# Altium schematic symbol library fpga_xilinx_ultrascale.SchLib: 7 symbols (part 4 of 6)
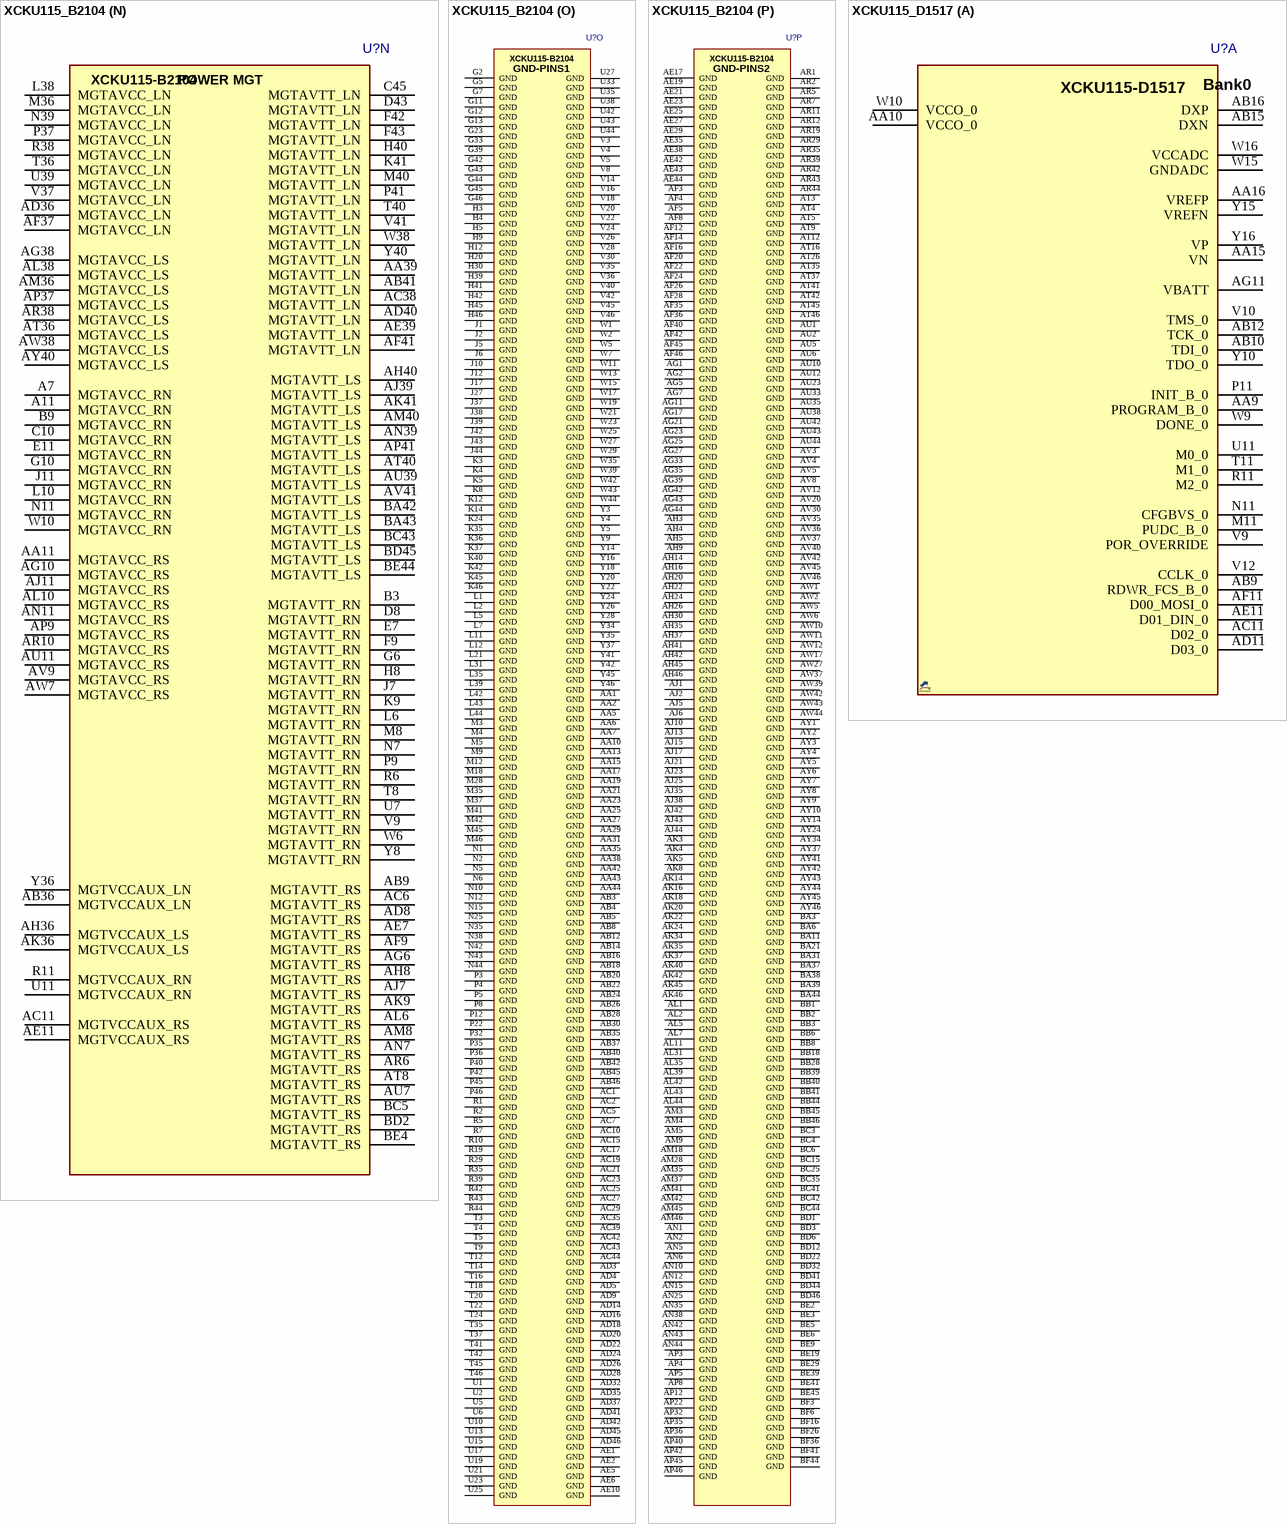
[diagram p32: symbols XCKU115_B2104 to XCKU115_D1517]

## XCKU115_B2104
designator U?  (value not drawn)
Xilinx FPGA Ultrascale, Kintex KU115, BGA2104; MANF_P#: XCKU115-2FLVB2104I; ASSEMBLY: ASSEMBLY; MANF: XILINX; VALUE: XCKU115_B2104; PACKAGE: FLVB2104
footprint BGA100_2104_S52 (Footprint not found)
part A pins: AA12 PUDC_B_0, AC12 DONE_0, AC13 TDO_0, AD12 POR_OVERRIDE, AD13 VCCO_0, AE12 PROGRAM_B_0, AE13 TCK_0, AE15 TDI_0, AF13 VCCO_0, AF18 GNDADC, AF19 VCCADC, AG12 RDWR_FCS_B_0, AG13 CCLK_0, AG15 TMS_0, AG18 VREFN, AG19 VP, AH12 D03_0, AH18 VN, AH19 VREFP, AJ12 D01_DIN_0, AJ18 DXN, AJ19 DXP, AK12 D00_MOSI_0, AL12 D02_0, AM12 VBATT, R12 M2_0, U12 M1_0, V12 M0_0, W12 CFGBVS_0, Y12 INIT_B_0
part B pins: AK30 VREF_44, AK33 VREF_45, AL29 IO_L24P_T3U_N10_44, AL30 IO_L24N_T3U_N11_44, AL32 IO_L23P_T3U_N8_45, AL33 IO_T3U_N12_45, AL34 IO_L24P_T3U_N10_45, AM29 IO_L22P_T3U_N6_DBC_AD0P_44, AM30 IO_L22N_T3U_N7_DBC_AD0N_44, AM31 IO_L23P_T3U_N8_44, AM32 IO_L23N_T3U_N9_45, AM33 VCCO_45, AM34 IO_L24N_T3U_N11_45, AN29 IO_L21P_T3L_N4_AD8P_44, AN30 VCCO_44, AN31 IO_L23N_T3U_N9_44, AN32 IO_L22P_T3U_N6_DBC_AD0P_45, AN33 IO_L22N_T3U_N7_DBC_AD0N_45, AN34 IO_L21P_T3L_N4_AD8P_45, AP29 IO_L21N_T3L_N5_AD8N_44, AP30 IO_L20P_T3L_N2_AD1P_44, AP31 IO_L19P_T3L_N0_DBC_AD9P_44, AP33 IO_L20P_T3L_N2_AD1P_45, AP34 IO_L21N_T3L_N5_AD8N_45, AR30 IO_L20N_T3L_N3_AD1N_44, AR31 IO_L19N_T3L_N1_DBC_AD9N_44, AR32 IO_T3U_N12_44, AR33 IO_L20N_T3L_N3_AD1N_45, AR34 VCCO_45, AT29 IO_L18P_T2U_N10_AD2P_44, AT30 IO_L18N_T2U_N11_AD2N_44, AT31 VCCO_44, AT32 IO_T2U_N12_44, AT33 IO_L19P_T3L_N0_DBC_AD9P_45, AT34 IO_L19N_T3L_N1_DBC_AD9N_45, AU29 IO_L16P_T2U_N6_QBC_AD3P_44, AU30 IO_L17P_T2U_N8_AD10P_44, AU31 IO_L17N_T2U_N9_AD10N_44, AU32 IO_L15P_T2L_N4_AD11P_44, AU34 IO_T2U_N12_45, AV29 IO_L16N_T2U_N7_QBC_AD3N_44, AV31 IO_L14P_T2L_N2_GC_44, AV32 IO_L15N_T2L_N5_AD11N_44, AV33 IO_L18P_T2U_N10_AD2P_45, AV34 IO_L17P_T2U_N8_AD10P_45, AW29 IO_L13P_T2L_N0_GC_QBC_44, AW30 IO_L13N_T2L_N1_GC_QBC_44, AW31 IO_L14N_T2L_N3_GC_44, AW32 VCCO_44, AW33 IO_L18N_T2U_N11_AD2N_45, AW34 IO_L17N_T2U_N9_AD10N_45, AW35 IO_L16P_T2U_N6_QBC_AD3P_45, AW36 IO_L16N_T2U_N7_QBC_AD3N_45, AY29 VCCO_44, AY30 IO_L11P_T1U_N8_GC_44, AY31 IO_L12P_T1U_N10_GC_44, AY32 IO_L12N_T1U_N11_GC_44, AY33 IO_L15P_T2L_N4_AD11P_45, AY35 IO_L14P_T2L_N2_GC_45, AY36 IO_L14N_T2L_N3_GC_45, BA29 IO_L9P_T1L_N4_AD12P_44, BA30 IO_L11N_T1U_N9_GC_44, BA32 IO_L10P_T1U_N6_QBC_AD4P_44, BA33 IO_L15N_T2L_N5_AD11N_45, BA34 IO_L13P_T2L_N0_GC_QBC_45, BA35 IO_L12P_T1U_N10_GC_45, BA36 VCCO_45, BB29 IO_L9N_T1L_N5_AD12N_44, BB30 IO_L8P_T1L_N2_AD5P_44, BB31 IO_L8N_T1L_N3_AD5N_44, BB32 IO_L10N_T1U_N7_QBC_AD4N_44, BB33 VCCO_45, BB34 IO_L13N_T2L_N1_GC_QBC_45, BB35 IO_L12N_T1U_N11_GC_45, BB36 IO_L11P_T1U_N8_GC_45, BB37 IO_L10P_T1U_N6_QBC_AD4P_45, BB38 IO_L6P_T0U_N10_AD6P_45, BC29 IO_L6P_T0U_N10_AD6P_44, BC30 VCCO_44, BC31 IO_L7P_T1L_N0_QBC_AD13P_44, BC32 IO_L7N_T1L_N1_QBC_AD13N_44, BC33 IO_T1U_N12_44, BC34 IO_L7P_T1L_N0_QBC_AD13P_45, BC36 IO_L11N_T1U_N9_GC_45, BC37 IO_L10N_T1U_N7_QBC_AD4N_45, BC38 IO_L6N_T0U_N11_AD6N_45, BC39 IO_L5P_T0U_N8_AD14P_45, BC40 VCCO_45, BD29 IO_L6N_T0U_N11_AD6N_44, BD30 IO_L4P_T0U_N6_DBC_AD7P_44, BD31 IO_L4N_T0U_N7_DBC_AD7N_44, BD33 IO_L5P_T0U_N8_AD14P_44, BD34 IO_L7N_T1L_N1_QBC_AD13N_45, BD35 IO_L8P_T1L_N2_AD5P_45, BD36 IO_L9P_T1L_N4_AD12P_45, BD37 VCCO_45, BD38 IO_T0U_N12_VRP_45, BD39 IO_L5N_T0U_N9_AD14N_45, BD40 IO_L4P_T0U_N6_DBC_AD7P_45, BE30 IO_L3P_T0L_N4_AD15P_44, BE31 IO_L2P_T0L_N2_44, BE32 IO_L2N_T0L_N3_44, BE33 IO_L5N_T0U_N9_AD14N_44, BE34 VCCO_45, BE35 IO_L8N_T1L_N3_AD5N_45, BE36 IO_L9N_T1L_N5_AD12N_45, BE37 IO_L3P_T0L_N4_AD15P_45, BE38 IO_L2P_T0L_N2_45, BE40 IO_L4N_T0U_N7_DBC_AD7N_45, BF30 IO_L3N_T0L_N5_AD15N_44, BF31 VCCO_44, BF32 IO_L1P_T0L_N0_DBC_44, BF33 IO_L1N_T0L_N1_DBC_44, BF34 IO_T0U_N12_VRP_44, BF35 IO_T1U_N12_45, BF37 IO_L3N_T0L_N5_AD15N_45, BF38 IO_L2N_T0L_N3_45, BF39 IO_L1P_T0L_N0_DBC_45, BF40 IO_L1N_T0L_N1_DBC_45
part C pins: AA32 IO_L19P_T3L_N0_DBC_AD9P_46, AA33 IO_L19N_T3L_N1_DBC_AD9N_46, AA34 IO_L20P_T3L_N2_AD1P_46, AB31 VREF_46, AB32 IO_T3U_N12_46, AB33 VCCO_46, AB34 IO_L20N_T3L_N3_AD1N_46, AC31 IO_L16P_T2U_N6_QBC_AD3P_46, AC32 IO_L17P_T2U_N8_AD10P_46, AC33 IO_L17N_T2U_N9_AD10N_46, AC34 IO_L18P_T2U_N10_AD2P_46, AD30 IO_T2U_N12_46, AD31 IO_L16N_T2U_N7_QBC_AD3N_46, AD33 IO_L14P_T2L_N2_GC_46, AD34 IO_L18N_T2U_N11_AD2N_46, AE30 IO_L15P_T2L_N4_AD11P_46, AE31 IO_L13P_T2L_N0_GC_QBC_46, AE32 IO_L13N_T2L_N1_GC_QBC_46, AE33 IO_L14N_T2L_N3_GC_46, AE34 VCCO_46, AF30 IO_L15N_T2L_N5_AD11N_46, AF31 VCCO_46, AF32 IO_L12P_T1U_N10_GC_46, AF33 IO_L12N_T1U_N11_GC_46, AF34 IO_L9P_T1L_N4_AD12P_46, AG29 IO_L5P_T0U_N8_AD14P_46, AG30 IO_L5N_T0U_N9_AD14N_46, AG31 IO_L11P_T1U_N8_GC_46, AG32 IO_L11N_T1U_N9_GC_46, AG34 IO_L9N_T1L_N5_AD12N_46, AH28 IO_L4P_T0U_N6_DBC_AD7P_46, AH29 IO_L4N_T0U_N7_DBC_AD7N_46, AH31 IO_L10P_T1U_N6_QBC_AD4P_46, AH32 IO_L10N_T1U_N7_QBC_AD4N_46, AH33 IO_L8P_T1L_N2_AD5P_46, AH34 IO_L7P_T1L_N0_QBC_AD13P_46, AJ27 IO_L1P_T0L_N0_DBC_46, AJ28 IO_L2P_T0L_N2_46, AJ29 IO_L3P_T0L_N4_AD15P_46, AJ30 IO_L3N_T0L_N5_AD15N_46, AJ31 IO_L6P_T0U_N10_AD6P_46, AJ32 VCCO_46, AJ33 IO_L8N_T1L_N3_AD5N_46, AJ34 IO_L7N_T1L_N1_QBC_AD13N_46, AK26 IO_T0U_N12_VRP_46, AK27 IO_L1N_T0L_N1_DBC_46, AK28 IO_L2N_T0L_N3_46, AK29 VCCO_46, AK31 IO_L6N_T0U_N11_AD6N_46, AK32 IO_T1U_N12_46, AL16 VCCO_66, AL17 IO_L22P_T3U_N6_DBC_AD0P_66, AL18 VREF_66, AL19 IO_L23P_T3U_N8_66, AL20 IO_L24P_T3U_N10_66, AM16 IO_L21P_T3L_N4_AD8P_66, AM17 IO_L22N_T3U_N7_DBC_AD0N_66, AM19 IO_L23N_T3U_N9_66, AM20 IO_L24N_T3U_N11_66, AN16 IO_L21N_T3L_N5_AD8N_66, AN17 IO_L19N_T3L_N1_DBC_AD9N_66, AN18 IO_L19P_T3L_N0_DBC_AD9P_66, AN19 IO_L20P_T3L_N2_AD1P_66, AN20 VCCO_66, AP16 IO_T3U_N12_66, AP17 VCCO_66, AP18 IO_L17P_T2U_N8_AD10P_66, AP19 IO_L20N_T3L_N3_AD1N_66, AP20 IO_L18P_T2U_N10_AD2P_66, AR17 IO_L16P_T2U_N6_QBC_AD3P_66, AR18 IO_L17N_T2U_N9_AD10N_66, AR20 IO_L18N_T2U_N11_AD2N_66, AT17 IO_L16N_T2U_N7_QBC_AD3N_66, AT18 IO_L15P_T2L_N4_AD11P_66, AT19 IO_L13P_T2L_N0_GC_QBC_66, AT20 IO_L14P_T2L_N2_GC_66, AU17 IO_L15N_T2L_N5_AD11N_66, AU18 VCCO_66, AU19 IO_L13N_T2L_N1_GC_QBC_66, AU20 IO_L14N_T2L_N3_GC_66, AU21 IO_T2U_N12_66, AV17 IO_T1U_N12_66, AV18 IO_L11P_T1U_N8_GC_66, AV19 IO_L12P_T1U_N10_GC_66, AV21 IO_L10P_T1U_N6_QBC_AD4P_66, AW18 IO_L11N_T1U_N9_GC_66, AW19 IO_L12N_T1U_N11_GC_66, AW20 IO_L9P_T1L_N4_AD12P_66, AW21 IO_L10N_T1U_N7_QBC_AD4N_66, AY17 IO_L7P_T1L_N0_QBC_AD13P_66, AY18 IO_L8P_T1L_N2_AD5P_66, AY19 VCCO_66, AY20 IO_L9N_T1L_N5_AD12N_66, BA17 IO_L7N_T1L_N1_QBC_AD13N_66, BA18 IO_L8N_T1L_N3_AD5N_66, BA19 IO_T0U_N12_VRP_66, BB17 IO_L5P_T0U_N8_AD14P_66, BB19 IO_L6P_T0U_N10_AD6P_66, BC17 IO_L5N_T0U_N9_AD14N_66, BC18 IO_L6N_T0U_N11_AD6N_66, BC19 IO_L4P_T0U_N6_DBC_AD7P_66, BD17 VCCO_66, BD18 IO_L3P_T0L_N4_AD15P_66, BD19 IO_L4N_T0U_N7_DBC_AD7N_66, BE17 IO_L1P_T0L_N0_DBC_66, BE18 IO_L3N_T0L_N5_AD15N_66, BF17 IO_L1N_T0L_N1_DBC_66, BF18 IO_L2N_T0L_N3_66, BF19 IO_L2P_T0L_N2_66, W30 IO_L21P_T3L_N4_AD8P_46, W31 IO_L22P_T3U_N6_DBC_AD0P_46, W32 VCCO_46, W33 IO_L24P_T3U_N10_46, W34 IO_L24N_T3U_N11_46, Y30 IO_L21N_T3L_N5_AD8N_46, Y31 IO_L22N_T3U_N7_DBC_AD0N_46, Y32 IO_L23P_T3U_N8_46, Y33 IO_L23N_T3U_N9_46
part D pins: AL13 VREF_67, AL14 IO_L24P_T3U_N10_67, AL15 IO_L23P_T3U_N8_67, AM13 VCCO_67, AM14 IO_L24N_T3U_N11_67, AM15 IO_L23N_T3U_N9_67, AN13 IO_L21N_T3L_N5_AD8N_67, AN14 IO_L21P_T3L_N4_AD8P_67, AP13 IO_L22P_T3U_N6_DBC_AD0P_67, AP14 IO_L20N_T3L_N3_AD1N_67, AP15 IO_L20P_T3L_N2_AD1P_67, AR13 IO_L22N_T3U_N7_DBC_AD0N_67, AR14 VCCO_67, AR15 IO_L19N_T3L_N1_DBC_AD9N_67, AR16 IO_L19P_T3L_N0_DBC_AD9P_67, AT13 IO_T3U_N12_67, AT14 IO_T2U_N12_67, AT15 IO_L17P_T2U_N8_AD10P_67, AU13 IO_L15P_T2L_N4_AD11P_67, AU14 IO_L16P_T2U_N6_QBC_AD3P_67, AU15 IO_L17N_T2U_N9_AD10N_67, AU16 IO_L18P_T2U_N10_AD2P_67, AV13 IO_L15N_T2L_N5_AD11N_67, AV14 IO_L16N_T2U_N7_QBC_AD3N_67, AV15 VCCO_67, AV16 IO_L18N_T2U_N11_AD2N_67, AW13 IO_L13N_T2L_N1_GC_QBC_67, AW14 IO_L13P_T2L_N0_GC_QBC_67, AW15 IO_L14N_T2L_N3_GC_67, AW16 IO_L14P_T2L_N2_GC_67, AY11 IO_L8N_T1L_N3_AD5N_67, AY12 IO_L8P_T1L_N2_AD5P_67, AY13 IO_L12P_T1U_N10_GC_67, AY15 IO_L9N_T1L_N5_AD12N_67, AY16 IO_L9P_T1L_N4_AD12P_67, BA7 IO_L10P_T1U_N6_QBC_AD4P_68, BA8 IO_L12N_T1U_N11_GC_68, BA9 IO_L12P_T1U_N10_GC_68, BA10 VREF_68, BA12 IO_L7P_T1L_N0_QBC_AD13P_67, BA13 IO_L12N_T1U_N11_GC_67, BA14 IO_L11N_T1U_N9_GC_67, BA15 IO_L11P_T1U_N8_GC_67, BA16 VCCO_67, BB7 IO_L10N_T1U_N7_QBC_AD4N_68, BB9 IO_L11P_T1U_N8_GC_68, BB10 IO_L8N_T1L_N3_AD5N_68, BB11 IO_L8P_T1L_N2_AD5P_68, BB12 IO_L7N_T1L_N1_QBC_AD13N_67, BB13 VCCO_67, BB14 IO_L10N_T1U_N7_QBC_AD4N_67, BB15 IO_L10P_T1U_N6_QBC_AD4P_67, BB16 IO_T1U_N12_67, BC7 IO_L9N_T1L_N5_AD12N_68, BC8 IO_L9P_T1L_N4_AD12P_68, BC9 IO_L11N_T1U_N9_GC_68, BC10 VCCO_68, BC11 IO_L7N_T1L_N1_QBC_AD13N_68, BC12 IO_L7P_T1L_N0_QBC_AD13P_68, BC13 IO_L6N_T0U_N11_AD6N_67, BC14 IO_L6P_T0U_N10_AD6P_67, BC16 IO_T0U_N12_VRP_67, BD7 VCCO_68, BD8 IO_L6N_T0U_N11_AD6N_68, BD9 IO_L6P_T0U_N10_AD6P_68, BD10 IO_T0U_N12_VRP_68, BD11 IO_T1U_N12_68, BD13 IO_L4P_T0U_N6_DBC_AD7P_67, BD14 IO_L5N_T0U_N9_AD14N_67, BD15 IO_L5P_T0U_N8_AD14P_67, BD16 IO_L3P_T0L_N4_AD15P_67, BE7 IO_L1P_T0L_N0_DBC_68, BE8 IO_L2P_T0L_N2_68, BE10 IO_L4N_T0U_N7_DBC_AD7N_68, BE11 IO_L4P_T0U_N6_DBC_AD7P_68, BE12 IO_L5P_T0U_N8_AD14P_68, BE13 IO_L4N_T0U_N7_DBC_AD7N_67, BE14 VCCO_67, BE15 IO_L2P_T0L_N2_67, BE16 IO_L3N_T0L_N5_AD15N_67, BF7 IO_L1N_T0L_N1_DBC_68, BF8 IO_L2N_T0L_N3_68, BF9 IO_L3N_T0L_N5_AD15N_68, BF10 IO_L3P_T0L_N4_AD15P_68, BF11 VCCO_68, BF12 IO_L5N_T0U_N9_AD14N_68, BF13 IO_L1N_T0L_N1_DBC_67, BF14 IO_L1P_T0L_N0_DBC_67, BF15 IO_L2N_T0L_N3_67
part E pins: A32 IO_L22P_T3U_N6_DBC_AD0P_52, A33 IO_L22N_T3U_N7_DBC_AD0N_52, A34 IO_L19N_T3L_N1_DBC_AD9N_52, A35 IO_L17N_T2U_N9_AD10N_52, A36 VCCO_52, A37 IO_L15P_T2L_N4_AD11P_52, A38 IO_L15N_T2L_N5_AD11N_52, A39 IO_L10N_T1U_N7_QBC_AD4N_52, A40 IO_L9N_T1L_N5_AD12N_52, B31 IO_T3U_N12_52, B32 IO_L23N_T3U_N9_52, B33 VCCO_52, B34 IO_L19P_T3L_N0_DBC_AD9P_52, B35 IO_L17P_T2U_N8_AD10P_52, B36 IO_L16P_T2U_N6_QBC_AD3P_52, B37 IO_L16N_T2U_N7_QBC_AD3N_52, B39 IO_L10P_T1U_N6_QBC_AD4P_52, B40 IO_L9P_T1L_N4_AD12P_52, C31 IO_L24N_T3U_N11_52, C32 IO_L23P_T3U_N8_52, C33 IO_L21N_T3L_N5_AD8N_52, C34 IO_L20N_T3L_N3_AD1N_52, C36 IO_L13P_T2L_N0_GC_QBC_52, C37 IO_L13N_T2L_N1_GC_QBC_52, C38 IO_L12P_T1U_N10_GC_52, C39 IO_L12N_T1U_N11_GC_52, C40 VCCO_52, D31 IO_L24P_T3U_N10_52, D33 IO_L21P_T3L_N4_AD8P_52, D34 IO_L20P_T3L_N2_AD1P_52, D35 IO_L18N_T2U_N11_AD2N_52, D36 IO_L14N_T2L_N3_GC_52, D37 VCCO_52, D38 IO_L11N_T1U_N9_GC_52, D39 IO_L8N_T1L_N3_AD5N_52, D40 IO_L7N_T1L_N1_QBC_AD13N_52, E31 IO_T3U_N12_51, E32 IO_L23N_T3U_N9_51, E33 IO_L24N_T3U_N11_51, E34 VCCO_52, E35 IO_L18P_T2U_N10_AD2P_52, E36 IO_L14P_T2L_N2_GC_52, E37 IO_T2U_N12_52, E38 IO_L11P_T1U_N8_GC_52, E39 IO_L8P_T1L_N2_AD5P_52, E40 IO_L7P_T1L_N0_QBC_AD13P_52, F30 IO_L19N_T3L_N1_DBC_AD9N_51, F31 VCCO_51, F32 IO_L23P_T3U_N8_51, F33 IO_L24P_T3U_N10_51, F34 IO_L6P_T0U_N10_AD6P_52, F35 IO_L6N_T0U_N11_AD6N_52, F37 IO_L2N_T0L_N3_52, F38 IO_T1U_N12_52, G30 IO_L19P_T3L_N0_DBC_AD9P_51, G31 IO_L20N_T3L_N3_AD1N_51, G32 IO_L21N_T3L_N5_AD8N_51, G34 IO_L5N_T0U_N9_AD14N_52, G35 IO_T0U_N12_VRP_52, G36 IO_L4N_T0U_N7_DBC_AD7N_52, G37 IO_L2P_T0L_N2_52, G38 VCCO_52, H31 IO_L20P_T3L_N2_AD1P_51, H32 IO_L21P_T3L_N4_AD8P_51, H33 IO_L22N_T3U_N7_DBC_AD0N_51, H34 IO_L5P_T0U_N8_AD14P_52, H35 VCCO_52, H36 IO_L4P_T0U_N6_DBC_AD7P_52, H37 IO_L1P_T0L_N0_DBC_52, H38 IO_L1N_T0L_N1_DBC_52, J30 IO_L16N_T2U_N7_QBC_AD3N_51, J31 IO_L17N_T2U_N9_AD10N_51, J32 VCCO_51, J33 IO_L22P_T3U_N6_DBC_AD0P_51, J34 VREF_52, J35 IO_L3P_T0L_N4_AD15P_52, J36 IO_L3N_T0L_N5_AD15N_52, K30 IO_L16P_T2U_N6_QBC_AD3P_51, K31 IO_L17P_T2U_N8_AD10P_51, K32 IO_L14N_T2L_N3_GC_51, K33 IO_L18N_T2U_N11_AD2N_51, K34 IO_T2U_N12_51, L30 IO_L15N_T2L_N5_AD11N_51, L32 IO_L14P_T2L_N2_GC_51, L33 IO_L18P_T2U_N10_AD2P_51, L34 IO_L10N_T1U_N7_QBC_AD4N_51, M30 IO_L15P_T2L_N4_AD11P_51, M31 IO_L13P_T2L_N0_GC_QBC_51, M32 IO_L13N_T2L_N1_GC_QBC_51, M33 VCCO_51, M34 IO_L10P_T1U_N6_QBC_AD4P_51, N30 VCCO_51, N31 IO_L11N_T1U_N9_GC_51, N32 IO_L12P_T1U_N10_GC_51, N33 IO_L12N_T1U_N11_GC_51, N34 IO_L9N_T1L_N5_AD12N_51, P30 IO_L7N_T1L_N1_QBC_AD13N_51, P31 IO_L11P_T1U_N8_GC_51, P33 IO_T1U_N12_51, P34 IO_L9P_T1L_N4_AD12P_51, R30 IO_L7P_T1L_N0_QBC_AD13P_51, R31 IO_L8P_T1L_N2_AD5P_51, R32 IO_L8N_T1L_N3_AD5N_51, R33 IO_L2N_T0L_N3_51, R34 VCCO_51, T30 IO_L6N_T0U_N11_AD6N_51, T31 VCCO_51, T32 IO_L3N_T0L_N5_AD15N_51, T33 IO_L2P_T0L_N2_51, T34 IO_L1N_T0L_N1_DBC_51, U29 VREF_51, U30 IO_L6P_T0U_N10_AD6P_51, U31 IO_L5N_T0U_N9_AD14N_51, U32 IO_L3P_T0L_N4_AD15P_51, U34 IO_L1P_T0L_N0_DBC_51, V31 IO_L5P_T0U_N8_AD14P_51, V32 IO_L4P_T0U_N6_DBC_AD7P_51, V33 IO_L4N_T0U_N7_DBC_AD7N_51, V34 IO_T0U_N12_VRP_51
part F pins: A13 IO_L21N_T3L_N5_AD8N_71, A14 IO_L21P_T3L_N4_AD8P_71, A15 IO_L22N_T3U_N7_DBC_AD0N_71, A16 VCCO_71, A17 IO_L24N_T3U_N11_71, A27 IO_L22P_T3U_N6_DBC_AD0P_53, A28 IO_L22N_T3U_N7_DBC_AD0N_53, A29 IO_L23N_T3U_N9_53, A30 IO_L24N_T3U_N11_53, B13 VCCO_71, B14 IO_L20N_T3L_N3_AD1N_71, B15 IO_L22P_T3U_N6_DBC_AD0P_71, B16 IO_L23N_T3U_N9_71, B17 IO_L24P_T3U_N10_71, B27 IO_L19N_T3L_N1_DBC_AD9N_53, B29 IO_L23P_T3U_N8_53, B30 IO_L24P_T3U_N10_53, C13 IO_L19N_T3L_N1_DBC_AD9N_71, C14 IO_L20P_T3L_N2_AD1P_71, C16 IO_L23P_T3U_N8_71, C17 IO_T3U_N12_71, C27 IO_L19P_T3L_N0_DBC_AD9P_53, C28 IO_T3U_N12_53, C29 IO_L20N_T3L_N3_AD1N_53, C30 VCCO_53, D13 IO_L19P_T3L_N0_DBC_AD9P_71, D14 IO_T2U_N12_71, D15 IO_L17N_T2U_N9_AD10N_71, D16 IO_L18N_T2U_N11_AD2N_71, D27 VCCO_53, D28 IO_L18N_T2U_N11_AD2N_53, D29 IO_L20P_T3L_N2_AD1P_53, D30 IO_L21N_T3L_N5_AD8N_53, E13 IO_L15N_T2L_N5_AD11N_71, E14 VCCO_71, E15 IO_L17P_T2U_N8_AD10P_71, E16 IO_L18P_T2U_N10_AD2P_71, E26 IO_T2U_N12_53, E27 IO_L17N_T2U_N9_AD10N_53, E28 IO_L18P_T2U_N10_AD2P_53, E30 IO_L21P_T3L_N4_AD8P_53, F13 IO_L15P_T2L_N4_AD11P_71, F14 IO_L13N_T2L_N1_GC_QBC_71, F15 IO_L14N_T2L_N3_GC_71, F27 IO_L17P_T2U_N8_AD10P_53, F28 IO_L16P_T2U_N6_QBC_AD3P_53, F29 IO_L16N_T2U_N7_QBC_AD3N_53, G14 IO_L13P_T2L_N0_GC_QBC_71, G15 IO_L14P_T2L_N2_GC_71, G16 IO_L16N_T2U_N7_QBC_AD3N_71, G17 IO_L16P_T2U_N6_QBC_AD3P_71, G26 IO_L14P_T2L_N2_GC_53, G27 IO_L14N_T2L_N3_GC_53, G28 VCCO_53, G29 IO_L15N_T2L_N5_AD11N_53, H13 IO_L9N_T1L_N5_AD12N_71, H14 IO_L11N_T1U_N9_GC_71, H15 VCCO_71, H16 IO_L10N_T1U_N7_QBC_AD4N_71, H17 IO_L10P_T1U_N6_QBC_AD4P_71, H26 IO_L13N_T2L_N1_GC_QBC_53, H27 IO_L11P_T1U_N8_GC_53, H28 IO_L11N_T1U_N9_GC_53, H29 IO_L15P_T2L_N4_AD11P_53, J13 IO_L9P_T1L_N4_AD12P_71, J14 IO_L11P_T1U_N8_GC_71, J15 IO_L12N_T1U_N11_GC_71, J16 IO_L12P_T1U_N10_GC_71, J26 IO_L13P_T2L_N0_GC_QBC_53, J28 IO_L12P_T1U_N10_GC_53, J29 IO_L12N_T1U_N11_GC_53, K13 IO_L7N_T1L_N1_QBC_AD13N_71, K15 IO_L8N_T1L_N3_AD5N_71, K16 IO_L8P_T1L_N2_AD5P_71, K26 IO_L10P_T1U_N6_QBC_AD4P_53, K27 IO_L10N_T1U_N7_QBC_AD4N_53, K28 IO_L8N_T1L_N3_AD5N_53, K29 VCCO_53, L13 IO_L7P_T1L_N0_QBC_AD13P_71, L14 IO_L5N_T0U_N9_AD14N_71, L15 IO_T1U_N12_71, L16 VCCO_71, L26 VCCO_53, L27 IO_L9N_T1L_N5_AD12N_53, L28 IO_L8P_T1L_N2_AD5P_53, L29 IO_L7N_T1L_N1_QBC_AD13N_53, M13 VCCO_71, M14 IO_L5P_T0U_N8_AD14P_71, M15 IO_T0U_N12_VRP_71, M16 IO_L6N_T0U_N11_AD6N_71, M26 IO_T1U_N12_53, M27 IO_L9P_T1L_N4_AD12P_53, M29 IO_L7P_T1L_N0_QBC_AD13P_53, N13 IO_L1N_T0L_N1_DBC_71, N14 IO_L2N_T0L_N3_71, N16 IO_L6P_T0U_N10_AD6P_71, N26 IO_L6N_T0U_N11_AD6N_53, N27 IO_T0U_N12_VRP_53, N28 IO_L5N_T0U_N9_AD14N_53, N29 IO_L4N_T0U_N7_DBC_AD7N_53, P13 IO_L1P_T0L_N0_DBC_71, P14 IO_L2P_T0L_N2_71, P15 IO_L3N_T0L_N5_AD15N_71, P16 IO_L4N_T0U_N7_DBC_AD7N_71, P26 IO_L6P_T0U_N10_AD6P_53, P27 VCCO_53, P28 IO_L5P_T0U_N8_AD14P_53, P29 IO_L4P_T0U_N6_DBC_AD7P_53, R13 VREF_71, R14 VCCO_71, R15 IO_L3P_T0L_N4_AD15P_71, R16 IO_L4P_T0U_N6_DBC_AD7P_71, R26 IO_L3N_T0L_N5_AD15N_53, R27 IO_L2N_T0L_N3_53, R28 IO_L1N_T0L_N1_DBC_53, T26 IO_L3P_T0L_N4_AD15P_53, T27 IO_L2P_T0L_N2_53, T28 IO_L1P_T0L_N0_DBC_53, T29 VREF_53
part G pins: A18 IO_T3U_N12_72, A19 IO_L23N_T3U_N9_72, A20 IO_L24N_T3U_N11_72, A22 IO_L22N_T3U_N7_DBC_AD0N_73, A23 IO_L22P_T3U_N6_DBC_AD0P_73, A24 IO_L23N_T3U_N9_73, A25 IO_L24N_T3U_N11_73, A26 VCCO_73, B19 IO_L23P_T3U_N8_72, B20 IO_L24P_T3U_N10_72, B21 IO_L21N_T3L_N5_AD8N_72, B22 IO_L19N_T3L_N1_DBC_AD9N_73, B23 VCCO_73, B24 IO_L23P_T3U_N8_73, B25 IO_L24P_T3U_N10_73, B26 IO_L21N_T3L_N5_AD8N_73, C18 IO_L22N_T3U_N7_DBC_AD0N_72, C19 IO_L19N_T3L_N1_DBC_AD9N_72, C20 VCCO_72, C21 IO_L21P_T3L_N4_AD8P_72, C22 IO_L19P_T3L_N0_DBC_AD9P_73, C23 IO_L20N_T3L_N3_AD1N_73, C24 IO_L20P_T3L_N2_AD1P_73, C26 IO_L21P_T3L_N4_AD8P_73, D17 VCCO_72, D18 IO_L22P_T3U_N6_DBC_AD0P_72, D19 IO_L19P_T3L_N0_DBC_AD9P_72, D20 IO_L20N_T3L_N3_AD1N_72, D21 IO_L20P_T3L_N2_AD1P_72, D23 IO_L17N_T2U_N9_AD10N_73, D24 IO_L17P_T2U_N8_AD10P_73, D25 IO_L18N_T2U_N11_AD2N_73, D26 IO_T3U_N12_73, E17 IO_L16N_T2U_N7_QBC_AD3N_72, E18 IO_L16P_T2U_N6_QBC_AD3P_72, E20 IO_L17N_T2U_N9_AD10N_72, E21 IO_L17P_T2U_N8_AD10P_72, E22 IO_L16N_T2U_N7_QBC_AD3N_73, E23 IO_L16P_T2U_N6_QBC_AD3P_73, E24 VCCO_73, E25 IO_L18P_T2U_N10_AD2P_73, F17 IO_L18N_T2U_N11_AD2N_72, F18 IO_L18P_T2U_N10_AD2P_72, F19 IO_L15N_T2L_N5_AD11N_72, F20 IO_L15P_T2L_N4_AD11P_72, F21 VCCO_72, F22 IO_L15N_T2L_N5_AD11N_73, F23 IO_L14N_T2L_N3_GC_73, F24 IO_L14P_T2L_N2_GC_73, F25 IO_T2U_N12_73, G18 VCCO_72, G19 IO_L14N_T2L_N3_GC_72, G20 IO_L14P_T2L_N2_GC_72, G21 IO_T2U_N12_72, G22 IO_L15P_T2L_N4_AD11P_73, G24 IO_L13N_T2L_N1_GC_QBC_73, G25 IO_L13P_T2L_N0_GC_QBC_73, H18 IO_L13N_T2L_N1_GC_QBC_72, H19 IO_L13P_T2L_N0_GC_QBC_72, H21 IO_L10N_T1U_N7_QBC_AD4N_72, H22 IO_T1U_N12_73, H23 IO_L11N_T1U_N9_GC_73, H24 IO_L12N_T1U_N11_GC_73, H25 VCCO_73, J18 IO_L11N_T1U_N9_GC_72, J19 IO_L12N_T1U_N11_GC_72, J20 IO_L12P_T1U_N10_GC_72, J21 IO_L10P_T1U_N6_QBC_AD4P_72, J22 VCCO_73, J23 IO_L11P_T1U_N8_GC_73, J24 IO_L12P_T1U_N10_GC_73, J25 IO_L10N_T1U_N7_QBC_AD4N_73, K17 IO_L7N_T1L_N1_QBC_AD13N_72, K18 IO_L11P_T1U_N8_GC_72, K19 VCCO_72, K20 IO_L9N_T1L_N5_AD12N_72, K21 IO_T1U_N12_72, K22 IO_L8N_T1L_N3_AD5N_73, K23 IO_L9N_T1L_N5_AD12N_73, K25 IO_L10P_T1U_N6_QBC_AD4P_73, L17 IO_L7P_T1L_N0_QBC_AD13P_72, L18 IO_L8N_T1L_N3_AD5N_72, L19 IO_L8P_T1L_N2_AD5P_72, L20 IO_L9P_T1L_N4_AD12P_72, L22 IO_L8P_T1L_N2_AD5P_73, L23 IO_L9P_T1L_N4_AD12P_73, L24 IO_L7N_T1L_N1_QBC_AD13N_73, L25 IO_L7P_T1L_N0_QBC_AD13P_73, M17 IO_L1N_T0L_N1_DBC_72, M19 IO_L3N_T0L_N5_AD15N_72, M20 IO_L3P_T0L_N4_AD15P_72, M21 IO_L6N_T0U_N11_AD6N_72, M22 IO_L2N_T0L_N3_73, M23 VCCO_73, M24 IO_L5N_T0U_N9_AD14N_73, M25 IO_L5P_T0U_N8_AD14P_73, N17 IO_L1P_T0L_N0_DBC_72, N18 IO_L2N_T0L_N3_72, N19 IO_L4N_T0U_N7_DBC_AD7N_72, N20 VCCO_72, N21 IO_L6P_T0U_N10_AD6P_72, N22 IO_L2P_T0L_N2_73, N23 IO_L3N_T0L_N5_AD15N_73, N24 IO_L4N_T0U_N7_DBC_AD7N_73, P17 VCCO_72, P18 IO_L2P_T0L_N2_72, P19 IO_L4P_T0U_N6_DBC_AD7P_72, P20 IO_L5N_T0U_N9_AD14N_72, P21 IO_L1N_T0L_N1_DBC_73, P23 IO_L3P_T0L_N4_AD15P_73, P24 IO_L4P_T0U_N6_DBC_AD7P_73, P25 IO_L6N_T0U_N11_AD6N_73, R17 VREF_72, R18 IO_T0U_N12_VRP_72, R20 IO_L5P_T0U_N8_AD14P_72, R21 IO_L1P_T0L_N0_DBC_73, R22 VREF_73, R23 IO_T0U_N12_VRP_73, R24 VCCO_73, R25 IO_L6P_T0U_N10_AD6P_73
part H pins: AK25 VREF_65, AL21 IO_L24P_T3U_N10_84, AL22 IO_L23P_T3U_N8_84, AL23 VREF_84, AL24 IO_L22P_T3U_N6_DBC_AD0P_84, AL25 IO_L21P_T3L_N4_AD8P_D06_65, AL26 VCCO_65, AL27 IO_L24P_T3U_N10_EMCCLK_65, AL28 IO_L24N_T3U_N11_DOUT_CSO_B_65, AM21 IO_L24N_T3U_N11_84, AM22 IO_L23N_T3U_N9_84, AM23 VCCO_84, AM24 IO_L22N_T3U_N7_DBC_AD0N_84, AM25 IO_L21N_T3L_N5_AD8N_D07_65, AM26 IO_L22P_T3U_N6_DBC_AD0P_D04_65, AM27 IO_L23P_T3U_N8_I2C_SCLK_65, AN21 IO_L19N_T3L_N1_DBC_AD9N_84, AN22 IO_L19P_T3L_N0_DBC_AD9P_84, AN23 IO_L20P_T3L_N2_AD1P_84, AN24 IO_L21P_T3L_N4_AD8P_84, AN26 IO_L22N_T3U_N7_DBC_AD0N_D05_65, AN27 IO_L23N_T3U_N9_I2C_SDA_65, AN28 IO_L20P_T3L_N2_AD1P_D08_65, AP21 IO_T3U_N12_84, AP23 IO_L20N_T3L_N3_AD1N_84, AP24 IO_L21N_T3L_N5_AD8N_84, AP25 IO_L19P_T3L_N0_DBC_AD9P_D10_65, AP26 IO_L19N_T3L_N1_DBC_AD9N_D11_65, AP27 VCCO_65, AP28 IO_L20N_T3L_N3_AD1N_D09_65, AR21 IO_T2U_N12_84, AR22 IO_L16P_T2U_N6_QBC_AD3P_84, AR23 IO_L17P_T2U_N8_AD10P_84, AR24 VCCO_84, AR25 IO_L16P_T2U_N6_QBC_AD3P_A00_D16_65, AR26 IO_T3U_N12_PERSTN0_65, AR27 IO_L17P_T2U_N8_AD10P_D14_65, AR28 IO_L18P_T2U_N10_AD2P_D12_65, AT21 VCCO_84, AT22 IO_L16N_T2U_N7_QBC_AD3N_84, AT23 IO_L17N_T2U_N9_AD10N_84, AT24 IO_L18P_T2U_N10_AD2P_84, AT25 IO_L16N_T2U_N7_QBC_AD3N_A01_D17_65, AT27 IO_L17N_T2U_N9_AD10N_D15_65, AT28 IO_L18N_T2U_N11_AD2N_D13_65, AU22 IO_L15P_T2L_N4_AD11P_84, AU24 IO_L18N_T2U_N11_AD2N_84, AU25 IO_T2U_N12_CSI_ADV_B_65, AU26 IO_L15P_T2L_N4_AD11P_A02_D18_65, AU27 IO_L15N_T2L_N5_AD11N_A03_D19_65, AU28 VCCO_65, AV22 IO_L15N_T2L_N5_AD11N_84, AV23 IO_L13P_T2L_N0_GC_QBC_84, AV24 IO_L14P_T2L_N2_GC_84, AV25 VCCO_65, AV26 IO_L13P_T2L_N0_GC_QBC_A06_D22_65, AV27 IO_L14P_T2L_N2_GC_A04_D20_65, AV28 IO_L14N_T2L_N3_GC_A05_D21_65, AW22 VCCO_84, AW23 IO_L13N_T2L_N1_GC_QBC_84, AW24 IO_L14N_T2L_N3_GC_84, AW25 IO_L10P_T1U_N6_QBC_AD4P_A12_D28_65, AW26 IO_L13N_T2L_N1_GC_QBC_A07_D23_65, AW28 IO_L12P_T1U_N10_GC_A08_D24_65, AY21 VREF_94, AY22 IO_L11P_T1U_N8_GC_94, AY23 IO_L12P_T1U_N10_GC_94, AY25 IO_L10N_T1U_N7_QBC_AD4N_A13_D29_65, AY26 IO_L11P_T1U_N8_GC_A10_D26_65, AY27 IO_L11N_T1U_N9_GC_A11_D27_65, AY28 IO_L12N_T1U_N11_GC_A09_D25_65, BA20 IO_L7P_T1L_N0_QBC_AD13P_94, BA22 IO_L11N_T1U_N9_GC_94, BA23 IO_L12N_T1U_N11_GC_94, BA24 IO_L10P_T1U_N6_QBC_AD4P_94, BA25 IO_L7P_T1L_N0_QBC_AD13P_A18_65, BA26 VCCO_65, BA27 IO_L9P_T1L_N4_AD12P_A14_D30_65, BA28 IO_L9N_T1L_N5_AD12N_A15_D31_65, BB20 IO_L7N_T1L_N1_QBC_AD13N_94, BB21 IO_L8P_T1L_N2_AD5P_94, BB22 IO_L9P_T1L_N4_AD12P_94, BB23 VCCO_94, BB24 IO_L10N_T1U_N7_QBC_AD4N_94, BB25 IO_L7N_T1L_N1_QBC_AD13N_A19_65, BB26 IO_L8P_T1L_N2_AD5P_A16_65, BB27 IO_L8N_T1L_N3_AD5N_A17_65, BC20 VCCO_94, BC21 IO_L8N_T1L_N3_AD5N_94, BC22 IO_L9N_T1L_N5_AD12N_94, BC23 IO_T1U_N12_94, BC24 IO_L3P_T0L_N4_AD15P_94, BC26 IO_L6P_T0U_N10_AD6P_A20_65, BC27 IO_L6N_T0U_N11_AD6N_A21_65, BC28 IO_T1U_N12_PERSTN1_65, BD20 IO_L6P_T0U_N10_AD6P_94, BD21 IO_L5P_T0U_N8_AD14P_94, BD23 IO_L2P_T0L_N2_94, BD24 IO_L3N_T0L_N5_AD15N_94, BD25 IO_T0U_N12_A28_65, BD26 IO_L4P_T0U_N6_DBC_AD7P_A24_65, BD27 VCCO_65, BD28 IO_L3P_T0L_N4_AD15P_A26_65, BE20 IO_L6N_T0U_N11_AD6N_94, BE21 IO_L5N_T0U_N9_AD14N_94, BE22 IO_L4P_T0U_N6_DBC_AD7P_94, BE23 IO_L2N_T0L_N3_94, BE24 VCCO_94, BE25 IO_L5P_T0U_N8_AD14P_A22_65, BE26 IO_L4N_T0U_N7_DBC_AD7N_A25_65, BE27 IO_L2P_T0L_N2_FOE_B_65, BE28 IO_L3N_T0L_N5_AD15N_A27_65, BF20 IO_T0U_N12_94, BF21 VCCO_94, BF22 IO_L4N_T0U_N7_DBC_AD7N_94, BF23 IO_L1N_T0L_N1_DBC_94, BF24 IO_L1P_T0L_N0_DBC_94, BF25 IO_L5N_T0U_N9_AD14N_A23_65, BF27 IO_L2N_T0L_N3_FWE_FCS2_B_65, BF28 IO_L1P_T0L_N0_DBC_RS0_65, BF29 IO_L1N_T0L_N1_DBC_RS1_65
part I pins: AF38 NC, AF39 NC, AF43 NC, AF44 NC, AG40 NC, AG41 NC, AG45 NC, AG46 NC, AH38 NC, AH39 NC, AH43 NC, AH44 NC, AJ36 NC, AJ37 NC, AJ40 NC, AJ41 NC, AJ45 NC, AJ46 NC, AK38 MGTHTXP3_128, AK39 MGTHTXN3_128, AK43 MGTHRXP3_128, AK44 MGTHRXN3_128, AL36 NC, AL37 NC, AL40 MGTHTXP2_128, AL41 MGTHTXN2_128, AL45 MGTHRXP2_128, AL46 MGTHRXN2_128, AM38 MGTHTXP1_128, AM39 MGTHTXN1_128, AM43 MGTHRXP1_128, AM44 MGTHRXN1_128, AN36 MGTREFCLK1P_128, AN37 MGTREFCLK1N_128, AN40 MGTHTXP0_128, AN41 MGTHTXN0_128, AN45 MGTHRXP0_128, AN46 MGTHRXN0_128, AP38 MGTHTXP3_127, AP39 MGTHTXN3_127, AP43 MGTHRXP3_127, AP44 MGTHRXN3_127, AR36 MGTREFCLK0P_128, AR37 MGTREFCLK0N_128, AR40 MGTHTXP2_127, AR41 MGTHTXN2_127, AR45 MGTHRXP2_127, AR46 MGTHRXN2_127, AT38 MGTHTXP1_127, AT39 MGTHTXN1_127, AT43 MGTHRXP1_127, AT44 MGTHRXN1_127, AU36 MGTREFCLK1P_127, AU37 MGTREFCLK1N_127, AU40 MGTHTXP0_127, AU41 MGTHTXN0_127, AU45 MGTHRXP0_127, AU46 MGTHRXN0_127, AV38 MGTREFCLK0P_127, AV39 MGTREFCLK0N_127, AV43 MGTHRXP3_126, AV44 MGTHRXN3_126, AW40 MGTHTXP3_126, AW41 MGTHTXN3_126, AW45 MGTHRXP2_126, AW46 MGTHRXN2_126, AY38 MGTREFCLK1P_126, AY39 MGTREFCLK1N_126, BA40 MGTREFCLK0P_126, BA41 MGTREFCLK0N_126, BA45 MGTHRXP1_126, BA46 MGTHRXN1_126, BB42 MGTHTXP2_126, BB43 MGTHTXN2_126, BC45 MGTHRXP0_126, BC46 MGTHRXN0_126, BD42 MGTHTXP1_126, BD43 MGTHTXN1_126, BE42 MGTAVTTRCAL_LS, BE43 MGTRREF_LS, BF42 MGTHTXP0_126, BF43 MGTHTXN0_126
part J pins: AB1 MGTHRXN3_228, AB2 MGTHRXP3_228, AB6 MGTHTXN3_228, AB7 MGTHTXP3_228, AB10 MGTREFCLK1N_228, AB11 MGTREFCLK1P_228, AB38 NC, AB39 NC, AB43 NC, AB44 NC, AC3 MGTHRXN2_228, AC4 MGTHRXP2_228, AC8 MGTHTXN2_228, AC9 MGTHTXP2_228, AC40 NC, AC41 NC, AC45 NC, AC46 NC, AD1 MGTHRXN1_228, AD2 MGTHRXP1_228, AD6 MGTHTXN1_228, AD7 MGTHTXP1_228, AD10 MGTREFCLK0N_228, AD11 MGTREFCLK0P_228, AD38 NC, AD39 NC, AD43 NC, AD44 NC, AE3 MGTHRXN0_228, AE4 MGTHRXP0_228, AE8 MGTHTXN0_228, AE9 MGTHTXP0_228, AE36 NC, AE37 NC, AE40 NC, AE41 NC, AE45 NC, AE46 NC, AF1 MGTHRXN3_227, AF2 MGTHRXP3_227, AF6 MGTHTXN3_227, AF7 MGTHTXP3_227, AF10 MGTREFCLK1N_227, AF11 MGTREFCLK1P_227, AG3 MGTHRXN2_227, AG4 MGTHRXP2_227, AG8 MGTHTXN2_227, AG9 MGTHTXP2_227, AG36 NC, AG37 NC, AH1 MGTHRXN1_227, AH2 MGTHRXP1_227, AH6 MGTHTXN1_227, AH7 MGTHTXP1_227, AH10 MGTREFCLK0N_227, AH11 MGTREFCLK0P_227, AJ3 MGTHRXN0_227, AJ4 MGTHRXP0_227, AJ8 MGTHTXN0_227, AJ9 MGTHTXP0_227, AK1 MGTHRXN3_226, AK2 MGTHRXP3_226, AK6 MGTHTXN3_226, AK7 MGTHTXP3_226, AK10 MGTREFCLK1N_226, AK11 MGTREFCLK1P_226, AL3 MGTHRXN2_226, AL4 MGTHRXP2_226, AL8 MGTHTXN2_226, AL9 MGTHTXP2_226, AM1 MGTHRXN1_226, AM2 MGTHRXP1_226, AM6 MGTHTXN1_226, AM7 MGTHTXP1_226, AM10 MGTREFCLK0N_226, AM11 MGTREFCLK0P_226, AN3 MGTHRXN0_226, AN4 MGTHRXP0_226, AN8 MGTHTXN0_226, AN9 MGTHTXP0_226, AP1 MGTHRXN3_225, AP2 MGTHRXP3_225, AP6 MGTHTXN3_225, AP7 MGTHTXP3_225, AP10 MGTREFCLK1N_225, AP11 MGTREFCLK1P_225, AR3 MGTHRXN2_225, AR4 MGTHRXP2_225, AR8 MGTHTXN2_225, AR9 MGTHTXP2_225, AT1 MGTHRXN1_225, AT2 MGTHRXP1_225, AT6 MGTHTXN1_225, AT7 MGTHTXP1_225, AT10 MGTREFCLK0N_225, AT11 MGTREFCLK0P_225, AU3 MGTHRXN0_225, AU4 MGTHRXP0_225, AU8 MGTHTXN0_225, AU9 MGTHTXP0_225, AV1 MGTHRXN3_224, AV2 MGTHRXP3_224, AV6 MGTHTXN3_224, AV7 MGTHTXP3_224, AV10 MGTREFCLK1N_224, AV11 MGTREFCLK1P_224, AW3 MGTHRXN2_224, AW4 MGTHRXP2_224, AW8 MGTREFCLK0N_224, AW9 MGTREFCLK0P_224, BA1 MGTHRXN1_224, BA2 MGTHRXP1_224, BA4 MGTRREF_RS, BA5 MGTAVTTRCAL_RS, BB4 MGTHTXN2_224, BB5 MGTHTXP2_224, BC1 MGTHRXN0_224, BC2 MGTHRXP0_224, BD4 MGTHTXN1_224, BD5 MGTHTXP1_224, BF4 MGTHTXN0_224, BF5 MGTHTXP0_224
part K pins: A42 NC, A43 NC, AA36 MGTREFCLK1P_131, AA37 MGTREFCLK1N_131, AA40 MGTHTXP0_131, AA41 MGTHTXN0_131, AA45 MGTHRXP0_131, AA46 MGTHRXN0_131, AC36 MGTREFCLK0P_131, AC37 MGTREFCLK0N_131, B42 MGTAVTTRCAL_LN, B43 MGTRREF_LN, C42 NC, C43 NC, D45 NC, D46 NC, E42 NC, E43 NC, F45 NC, F46 NC, G40 NC, G41 NC, H43 NC, H44 NC, J40 MGTHTXP3_133, J41 MGTHTXN3_133, J45 NC, J46 NC, K38 NC, K39 NC, K43 MGTHRXP3_133, K44 MGTHRXN3_133, L36 NC, L37 NC, L40 MGTHTXP2_133, L41 MGTHTXN2_133, L45 MGTHRXP2_133, L46 MGTHRXN2_133, M38 MGTHTXP1_133, M39 MGTHTXN1_133, M43 MGTHRXP1_133, M44 MGTHRXN1_133, N36 MGTREFCLK1P_133, N37 MGTREFCLK1N_133, N40 MGTHTXP0_133, N41 MGTHTXN0_133, N45 MGTHRXP0_133, N46 MGTHRXN0_133, P38 MGTHTXP3_132, P39 MGTHTXN3_132, P43 MGTHRXP3_132, P44 MGTHRXN3_132, R36 MGTREFCLK0P_133, R37 MGTREFCLK0N_133, R40 MGTHTXP2_132, R41 MGTHTXN2_132, R45 MGTHRXP2_132, R46 MGTHRXN2_132, T38 MGTHTXP1_132, T39 MGTHTXN1_132, T43 MGTHRXP1_132, T44 MGTHRXN1_132, U36 MGTREFCLK1P_132, U37 MGTREFCLK1N_132, U40 MGTHTXP0_132, U41 MGTHTXN0_132, U45 MGTHRXP0_132, U46 MGTHRXN0_132, V38 MGTHTXP3_131, V39 MGTHTXN3_131, V43 MGTHRXP3_131, V44 MGTHRXN3_131, W36 MGTREFCLK0P_132, W37 MGTREFCLK0N_132, W40 MGTHTXP2_131, W41 MGTHTXN2_131, W45 MGTHRXP2_131, W46 MGTHRXN2_131, Y38 MGTHTXP1_131, Y39 MGTHTXN1_131, Y43 MGTHRXP1_131, Y44 MGTHRXN1_131
part L pins: A4 MGTHRXN3_233, A5 MGTHRXP3_233, A8 MGTHTXN3_233, A9 MGTHTXP3_233, AA3 MGTHRXN0_229, AA4 MGTHRXP0_229, AA8 MGTHTXN0_229, AA9 MGTHTXP0_229, B10 MGTREFCLK1N_233, B11 MGTREFCLK1P_233, C3 MGTHRXN2_233, C4 MGTHRXP2_233, C6 MGTRREF_RN, C7 MGTAVTTRCAL_RN, C8 MGTHTXN2_233, C9 MGTHTXP2_233, D1 MGTHRXN1_233, D2 MGTHRXP1_233, D6 MGTHTXN1_233, D7 MGTHTXP1_233, D10 MGTREFCLK0N_233, D11 MGTREFCLK0P_233, E3 MGTHRXN0_233, E4 MGTHRXP0_233, E8 MGTHTXN0_233, E9 MGTHTXP0_233, F1 MGTHRXN3_232, F2 MGTHRXP3_232, F6 MGTHTXN3_232, F7 MGTHTXP3_232, F10 MGTREFCLK1N_232, F11 MGTREFCLK1P_232, G3 MGTHRXN2_232, G4 MGTHRXP2_232, G8 MGTHTXN2_232, G9 MGTHTXP2_232, H1 MGTHRXN1_232, H2 MGTHRXP1_232, H6 MGTHTXN1_232, H7 MGTHTXP1_232, H10 MGTREFCLK0N_232, H11 MGTREFCLK0P_232, J3 MGTHRXN0_232, J4 MGTHRXP0_232, J8 MGTHTXN0_232, J9 MGTHTXP0_232, K1 MGTHRXN3_231, K2 MGTHRXP3_231, K6 MGTHTXN3_231, K7 MGTHTXP3_231, K10 MGTREFCLK1N_231, K11 MGTREFCLK1P_231, L3 MGTHRXN2_231, L4 MGTHRXP2_231, L8 MGTHTXN2_231, L9 MGTHTXP2_231, M1 MGTHRXN1_231, M2 MGTHRXP1_231, M6 MGTHTXN1_231, M7 MGTHTXP1_231, M10 MGTREFCLK0N_231, M11 MGTREFCLK0P_231, N3 MGTHRXN0_231, N4 MGTHRXP0_231, N8 MGTHTXN0_231, N9 MGTHTXP0_231, P1 MGTHRXN3_230, P2 MGTHRXP3_230, P6 MGTHTXN3_230, P7 MGTHTXP3_230, P10 MGTREFCLK1N_230, P11 MGTREFCLK1P_230, R3 MGTHRXN2_230, R4 MGTHRXP2_230, R8 MGTHTXN2_230, R9 MGTHTXP2_230, T1 MGTHRXN1_230, T2 MGTHRXP1_230, T6 MGTHTXN1_230, T7 MGTHTXP1_230, T10 MGTREFCLK0N_230, T11 MGTREFCLK0P_230, U3 MGTHRXN0_230, U4 MGTHRXP0_230, U8 MGTHTXN0_230, U9 MGTHTXP0_230, V1 MGTHRXN3_229, V2 MGTHRXP3_229, V6 MGTHTXN3_229, V7 MGTHTXP3_229, V10 MGTREFCLK1N_229, V11 MGTREFCLK1P_229, W3 MGTHRXN2_229, W4 MGTHRXP2_229, W8 MGTHTXN2_229, W9 MGTHTXP2_229, Y1 MGTHRXN1_229, Y2 MGTHRXP1_229, Y6 MGTHTXN1_229, Y7 MGTHTXP1_229, Y10 MGTREFCLK0N_229, Y11 MGTREFCLK0P_229
part M pins: A3 GND, A6 GND, A10 GND, A12 GND, A21 GND, A31 GND, A41 GND, A44 GND, AA14 VCCINT, AA16 VCCINT, AA18 VCCINT, AA20 VCCINT, AA22 VCCINT, AA24 VCCINT, AA26 VCCAUXIO, AA28 VCCAUXIO, AA30 VCCAUX, AB13 VCCBRAM, AB15 VCCINT, AB17 VCCINT, AB19 VCCINT, AB21 VCCINT, AB23 VCCINT, AB25 VCCINT_IO, AB27 VCCAUXIO, AB29 VCCAUX, AC14 VCCBRAM, AC16 VCCINT, AC18 VCCINT, AC20 VCCINT, AC22 VCCINT, AC24 VCCINT_IO, AC26 VCCAUXIO, AC28 VCCAUXIO, AC30 VCCAUX, AD15 VCCINT, AD17 VCCINT, AD19 VCCINT, AD21 VCCINT, AD23 VCCINT, AD25 VCCINT_IO, AD27 VCCAUXIO, AD29 VCCAUX, AE14 VCCBRAM, AE16 VCCINT, AE18 VCCINT, AE20 VCCINT, AE22 VCCINT, AE24 VCCINT, AE26 VCCINT_IO, AE28 VCCAUXIO, AF15 VCCINT, AF17 VCCINT, AF21 VCCINT, AF23 VCCINT, AF25 VCCINT_IO, AF27 VCCAUXIO, AF29 VCCAUX, AG14 VCCBRAM, AG16 VCCINT, AG20 VCCINT, AG22 VCCINT, AG24 VCCINT, AG26 VCCAUXIO, AG28 VCCAUXIO, AH13 VCCINT, AH15 VCCINT, AH17 VCCINT, AH21 VCCINT, AH23 VCCINT, AH25 VCCINT_IO, AH27 VCCAUXIO, AJ14 VCCINT, AJ16 VCCINT, AJ20 VCCINT, AJ22 VCCINT, AJ24 VCCINT, AJ26 VCCAUXIO, AK13 VCCINT, AK15 VCCINT, AK17 VCCINT, AK19 VCCINT, AK21 VCCINT, AK23 VCCINT, B2 GND, B4 GND, B5 GND, B6 GND, B7 GND, B8 GND, B12 GND, B18 GND, B28 GND, B38 GND, B41 GND, B44 GND, B45 GND, C1 GND, C2 GND, C5 GND, C11 GND, C12 GND, C15 GND, C25 GND, C35 GND, C41 GND, C44 GND, C46 GND, D3 GND, D4 GND, D5 GND, D9 GND, D12 GND, D22 GND, D32 GND, D41 GND, D42 GND, D44 GND, E1 GND, E2 GND, E5 GND, E6 GND, E10 GND, E12 GND, E19 GND, E29 GND, E41 GND, E44 GND, E45 GND, E46 GND, F3 GND, F4 GND, F5 GND, F8 GND, F12 GND, F16 GND, F26 GND, F36 GND, F39 GND, F40 GND, F41 GND, F44 GND, G1 GND, T13 VCCINT, T15 VCCINT, T17 VCCINT, T19 VCCINT, T21 VCCINT, T23 VCCINT, T25 VCCINT_IO, U14 VCCINT, U16 VCCINT, U18 VCCINT, U20 VCCINT, U22 VCCINT, U24 VCCINT, U26 VCCAUXIO, U28 VCCAUXIO, V13 VCCINT, V15 VCCINT, V17 VCCINT, V19 VCCINT, V21 VCCINT, V23 VCCINT, V25 VCCINT_IO, V27 VCCAUXIO, V29 VCCAUX, W14 VCCINT, W16 VCCINT, W18 VCCINT, W20 VCCINT, W22 VCCINT, W24 VCCINT, W26 VCCAUXIO, W28 VCCAUX, Y13 VCCBRAM, Y15 VCCINT, Y17 VCCINT, Y19 VCCINT, Y21 VCCINT, Y23 VCCINT, Y25 VCCINT_IO, Y27 VCCAUXIO, Y29 VCCAUX
part N pins: A7 MGTAVCC_RN, A11 MGTAVCC_RN, AA11 MGTAVCC_RS, AA39 MGTAVTT_LN, AB9 MGTAVTT_RS, AB36 MGTVCCAUX_LN, AB41 MGTAVTT_LN, AC6 MGTAVTT_RS, AC11 MGTVCCAUX_RS, AC38 MGTAVTT_LN, AD8 MGTAVTT_RS, AD36 MGTAVCC_LN, AD40 MGTAVTT_LN, AE7 MGTAVTT_RS, AE11 MGTVCCAUX_RS, AE39 MGTAVTT_LN, AF9 MGTAVTT_RS, AF37 MGTAVCC_LN, AF41 MGTAVTT_LN, AG6 MGTAVTT_RS, AG10 MGTAVCC_RS, AG38 MGTAVCC_LS, AH8 MGTAVTT_RS, AH36 MGTVCCAUX_LS, AH40 MGTAVTT_LS, AJ7 MGTAVTT_RS, AJ11 MGTAVCC_RS, AJ39 MGTAVTT_LS, AK9 MGTAVTT_RS, AK36 MGTVCCAUX_LS, AK41 MGTAVTT_LS, AL6 MGTAVTT_RS, AL10 MGTAVCC_RS, AL38 MGTAVCC_LS, AM8 MGTAVTT_RS, AM36 MGTAVCC_LS, AM40 MGTAVTT_LS, AN7 MGTAVTT_RS, AN11 MGTAVCC_RS, AN39 MGTAVTT_LS, AP9 MGTAVCC_RS, AP37 MGTAVCC_LS, AP41 MGTAVTT_LS, AR6 MGTAVTT_RS, AR10 MGTAVCC_RS, AR38 MGTAVCC_LS, AT8 MGTAVTT_RS, AT36 MGTAVCC_LS, AT40 MGTAVTT_LS, AU7 MGTAVTT_RS, AU11 MGTAVCC_RS, AU39 MGTAVTT_LS, AV9 MGTAVCC_RS, AV41 MGTAVTT_LS, AW7 MGTAVCC_RS, AW38 MGTAVCC_LS, AY40 MGTAVCC_LS, B3 MGTAVTT_RN, B9 MGTAVCC_RN, BA42 MGTAVTT_LS, BA43 MGTAVTT_LS, BC5 MGTAVTT_RS, BC43 MGTAVTT_LS, BD2 MGTAVTT_RS, BD45 MGTAVTT_LS, BE4 MGTAVTT_RS, BE44 MGTAVTT_LS, C10 MGTAVCC_RN, C45 MGTAVTT_LN, D8 MGTAVTT_RN, D43 MGTAVTT_LN, E7 MGTAVTT_RN, E11 MGTAVCC_RN, F9 MGTAVTT_RN, F42 MGTAVTT_LN, F43 MGTAVTT_LN, G6 MGTAVTT_RN, G10 MGTAVCC_RN, H8 MGTAVTT_RN, H40 MGTAVTT_LN, J7 MGTAVTT_RN, J11 MGTAVCC_RN, K9 MGTAVTT_RN, K41 MGTAVTT_LN, L6 MGTAVTT_RN, L10 MGTAVCC_RN, L38 MGTAVCC_LN, M8 MGTAVTT_RN, M36 MGTAVCC_LN, M40 MGTAVTT_LN, N7 MGTAVTT_RN, N11 MGTAVCC_RN, N39 MGTAVCC_LN, P9 MGTAVTT_RN, P37 MGTAVCC_LN, P41 MGTAVTT_LN, R6 MGTAVTT_RN, R11 MGTVCCAUX_RN, R38 MGTAVCC_LN, T8 MGTAVTT_RN, T36 MGTAVCC_LN, T40 MGTAVTT_LN, U7 MGTAVTT_RN, U11 MGTVCCAUX_RN, U39 MGTAVCC_LN, V9 MGTAVTT_RN, V37 MGTAVCC_LN, V41 MGTAVTT_LN, W6 MGTAVTT_RN, W10 MGTAVCC_RN, W38 MGTAVTT_LN, Y8 MGTAVTT_RN, Y36 MGTVCCAUX_LN, Y40 MGTAVTT_LN
part O pins: AA1 GND, AA2 GND, AA5 GND, AA6 GND, AA7 GND, AA10 GND, AA13 GND, AA15 GND, AA17 GND, AA19 GND, AA21 GND, AA23 GND, AA25 GND, AA27 GND, AA29 GND, AA31 GND, AA35 GND, AA38 GND, AA42 GND, AA43 GND, AA44 GND, AB3 GND, AB4 GND, AB5 GND, AB8 GND, AB12 GND, AB14 GND, AB16 GND, AB18 GND, AB20 GND, AB22 GND, AB24 GND, AB26 GND, AB28 GND, AB30 GND, AB35 GND, AB37 GND, AB40 GND, AB42 GND, AB45 GND, AB46 GND, AC1 GND, AC2 GND, AC5 GND, AC7 GND, AC10 GND, AC15 GND, AC17 GND, AC19 GND, AC21 GND, AC23 GND, AC25 GND, AC27 GND, AC29 GND, AC35 GND, AC39 GND, AC42 GND, AC43 GND, AC44 GND, AD3 GND, AD4 GND, AD5 GND, AD9 GND, AD14 GND, AD16 GND, AD18 GND, AD20 GND, AD22 GND, AD24 GND, AD26 GND, AD28 GND, AD32 GND, AD35 GND, AD37 GND, AD41 GND, AD42 GND, AD45 GND, AD46 GND, AE1 GND, AE2 GND, AE5 GND, AE6 GND, AE10 GND, G2 GND, G5 GND, G7 GND, G11 GND, G12 GND, G13 GND, G23 GND, G33 GND, G39 GND, G42 GND, G43 GND, G44 GND, G45 GND, G46 GND, H3 GND, H4 GND, H5 GND, H9 GND, H12 GND, H20 GND, H30 GND, H39 GND, H41 GND, H42 GND, H45 GND, H46 GND, J1 GND, J2 GND, J5 GND, J6 GND, J10 GND, J12 GND, J17 GND, J27 GND, J37 GND, J38 GND, J39 GND, J42 GND, J43 GND, J44 GND, K3 GND, K4 GND, K5 GND, K8 GND, K12 GND, K14 GND, K24 GND, K35 GND, K36 GND, K37 GND, K40 GND, K42 GND, K45 GND, K46 GND, L1 GND, L2 GND, L5 GND, L7 GND, L11 GND, L12 GND, L21 GND, L31 GND, L35 GND, L39 GND, L42 GND, L43 GND, L44 GND, M3 GND, M4 GND, M5 GND, M9 GND, M12 GND, M18 GND, M28 GND, M35 GND, M37 GND, M41 GND, M42 GND, M45 GND, M46 GND, N1 GND, N2 GND, N5 GND, N6 GND, N10 GND, N12 GND, N15 GND, N25 GND, N35 GND, N38 GND, N42 GND, N43 GND, N44 GND, P3 GND, P4 GND, P5 GND, P8 GND, P12 GND, P22 GND, P32 GND, P35 GND, P36 GND, P40 GND, P42 GND, P45 GND, P46 GND, R1 GND, R2 GND, R5 GND, R7 GND, R10 GND, R19 GND, R29 GND, R35 GND, R39 GND, R42 GND, R43 GND, R44 GND, T3 GND, T4 GND, T5 GND, T9 GND, T12 GND, T14 GND, T16 GND, T18 GND, T20 GND, T22 GND, T24 GND, T35 GND, T37 GND, T41 GND, T42 GND, T45 GND, T46 GND, U1 GND, U2 GND, U5 GND, U6 GND, U10 GND, U13 GND, U15 GND, U17 GND, U19 GND, U21 GND, U23 GND, U25 GND, U27 GND, U33 GND, U35 GND, U38 GND, U42 GND, U43 GND, U44 GND, V3 GND, V4 GND, V5 GND, V8 GND, V14 GND, V16 GND, V18 GND, V20 GND, V22 GND, V24 GND, V26 GND, V28 GND, V30 GND, V35 GND, V36 GND, V40 GND, V42 GND, V45 GND, V46 GND, W1 GND, W2 GND, W5 GND, W7 GND, W11 GND, W13 GND, W15 GND, W17 GND, W19 GND, W21 GND, W23 GND, W25 GND, W27 GND, W29 GND, W35 GND, W39 GND, W42 GND, W43 GND, W44 GND, Y3 GND, Y4 GND, Y5 GND, Y9 GND, Y14 GND, Y16 GND, Y18 GND, Y20 GND, Y22 GND, Y24 GND, Y26 GND, Y28 GND, Y34 GND, Y35 GND, Y37 GND, Y41 GND, Y42 GND, Y45 GND, Y46 GND
part P pins: AE17 GND, AE19 GND, AE21 GND, AE23 GND, AE25 GND, AE27 GND, AE29 GND, AE35 GND, AE38 GND, AE42 GND, AE43 GND, AE44 GND, AF3 GND, AF4 GND, AF5 GND, AF8 GND, AF12 GND, AF14 GND, AF16 GND, AF20 GND, AF22 GND, AF24 GND, AF26 GND, AF28 GND, AF35 GND, AF36 GND, AF40 GND, AF42 GND, AF45 GND, AF46 GND, AG1 GND, AG2 GND, AG5 GND, AG7 GND, AG11 GND, AG17 GND, AG21 GND, AG23 GND, AG25 GND, AG27 GND, AG33 GND, AG35 GND, AG39 GND, AG42 GND, AG43 GND, AG44 GND, AH3 GND, AH4 GND, AH5 GND, AH9 GND, AH14 GND, AH16 GND, AH20 GND, AH22 GND, AH24 GND, AH26 GND, AH30 GND, AH35 GND, AH37 GND, AH41 GND, AH42 GND, AH45 GND, AH46 GND, AJ1 GND, AJ2 GND, AJ5 GND, AJ6 GND, AJ10 GND, AJ13 GND, AJ15 GND, AJ17 GND, AJ21 GND, AJ23 GND, AJ25 GND, AJ35 GND, AJ38 GND, AJ42 GND, AJ43 GND, AJ44 GND, AK3 GND, AK4 GND, AK5 GND, AK8 GND, AK14 GND, AK16 GND, AK18 GND, AK20 GND, AK22 GND, AK24 GND, AK34 GND, AK35 GND, AK37 GND, AK40 GND, AK42 GND, AK45 GND, AK46 GND, AL1 GND, AL2 GND, AL5 GND, AL7 GND, AL11 GND, AL31 GND, AL35 GND, AL39 GND, AL42 GND, AL43 GND, AL44 GND, AM3 GND, AM4 GND, AM5 GND, AM9 GND, AM18 GND, AM28 GND, AM35 GND, AM37 GND, AM41 GND, AM42 GND, AM45 GND, AM46 GND, AN1 GND, AN2 GND, AN5 GND, AN6 GND, AN10 GND, AN12 GND, AN15 GND, AN25 GND, AN35 GND, AN38 GND, AN42 GND, AN43 GND, AN44 GND, AP3 GND, AP4 GND, AP5 GND, AP8 GND, AP12 GND, AP22 GND, AP32 GND, AP35 GND, AP36 GND, AP40 GND, AP42 GND, AP45 GND, AP46 GND, AR1 GND, AR2 GND, AR5 GND, AR7 GND, AR11 GND, AR12 GND, AR19 GND, AR29 GND, AR35 GND, AR39 GND, AR42 GND, AR43 GND, AR44 GND, AT3 GND, AT4 GND, AT5 GND, AT9 GND, AT12 GND, AT16 GND, AT26 GND, AT35 GND, AT37 GND, AT41 GND, AT42 GND, AT45 GND, AT46 GND, AU1 GND, AU2 GND, AU5 GND, AU6 GND, AU10 GND, AU12 GND, AU23 GND, AU33 GND, AU35 GND, AU38 GND, AU42 GND, AU43 GND, AU44 GND, AV3 GND, AV4 GND, AV5 GND, AV8 GND, AV12 GND, AV20 GND, AV30 GND, AV35 GND, AV36 GND, AV37 GND, AV40 GND, AV42 GND, AV45 GND, AV46 GND, AW1 GND, AW2 GND, AW5 GND, AW6 GND, AW10 GND, AW11 GND, AW12 GND, AW17 GND, AW27 GND, AW37 GND, AW39 GND, AW42 GND, AW43 GND, AW44 GND, AY1 GND, AY2 GND, AY3 GND, AY4 GND, AY5 GND, AY6 GND, AY7 GND, AY8 GND, AY9 GND, AY10 GND, AY14 GND, AY24 GND, AY34 GND, AY37 GND, AY41 GND, AY42 GND, AY43 GND, AY44 GND, AY45 GND, AY46 GND, BA3 GND, BA6 GND, BA11 GND, BA21 GND, BA31 GND, BA37 GND, BA38 GND, BA39 GND, BA44 GND, BB1 GND, BB2 GND, BB3 GND, BB6 GND, BB8 GND, BB18 GND, BB28 GND, BB39 GND, BB40 GND, BB41 GND, BB44 GND, BB45 GND, BB46 GND, BC3 GND, BC4 GND, BC6 GND, BC15 GND, BC25 GND, BC35 GND, BC41 GND, BC42 GND, BC44 GND, BD1 GND, BD3 GND, BD6 GND, BD12 GND, BD22 GND, BD32 GND, BD41 GND, BD44 GND, BD46 GND, BE2 GND, BE3 GND, BE5 GND, BE6 GND, BE9 GND, BE19 GND, BE29 GND, BE39 GND, BE41 GND, BE45 GND, BF3 GND, BF6 GND, BF16 GND, BF26 GND, BF36 GND, BF41 GND, BF44 GND
part A text: XCKU115-B2104; Bank0
part B text: XCKU115-B2104; Bank44; Bank45
part C text: XCKU115-B2104; Bank46; Bank66
part D text: XCKU115-B2104; Bank67; Bank68
part E text: XCKU115-B2104; Bank51; Bank52
part F text: XCKU115-B2104; Bank53; Bank71
part G text: XCKU115-B2104; Bank72; Bank73
part H text: XCKU115-B2104; Bank94,84 (HR); Bank65 (HR)
part I text: XCKU115-B2104; MGT_LS
part J text: XCKU115-B2104; MGT_RS; MGT_LC
part K text: XCKU115-B2104; MGT_LN
part L text: XCKU115-B2104; MGT_RN
part M text: XCKU115-B2104; POWER
part N text: XCKU115-B2104; POWER MGT
part O text: XCKU115-B2104; GND-PINS1
part P text: XCKU115-B2104; GND-PINS2

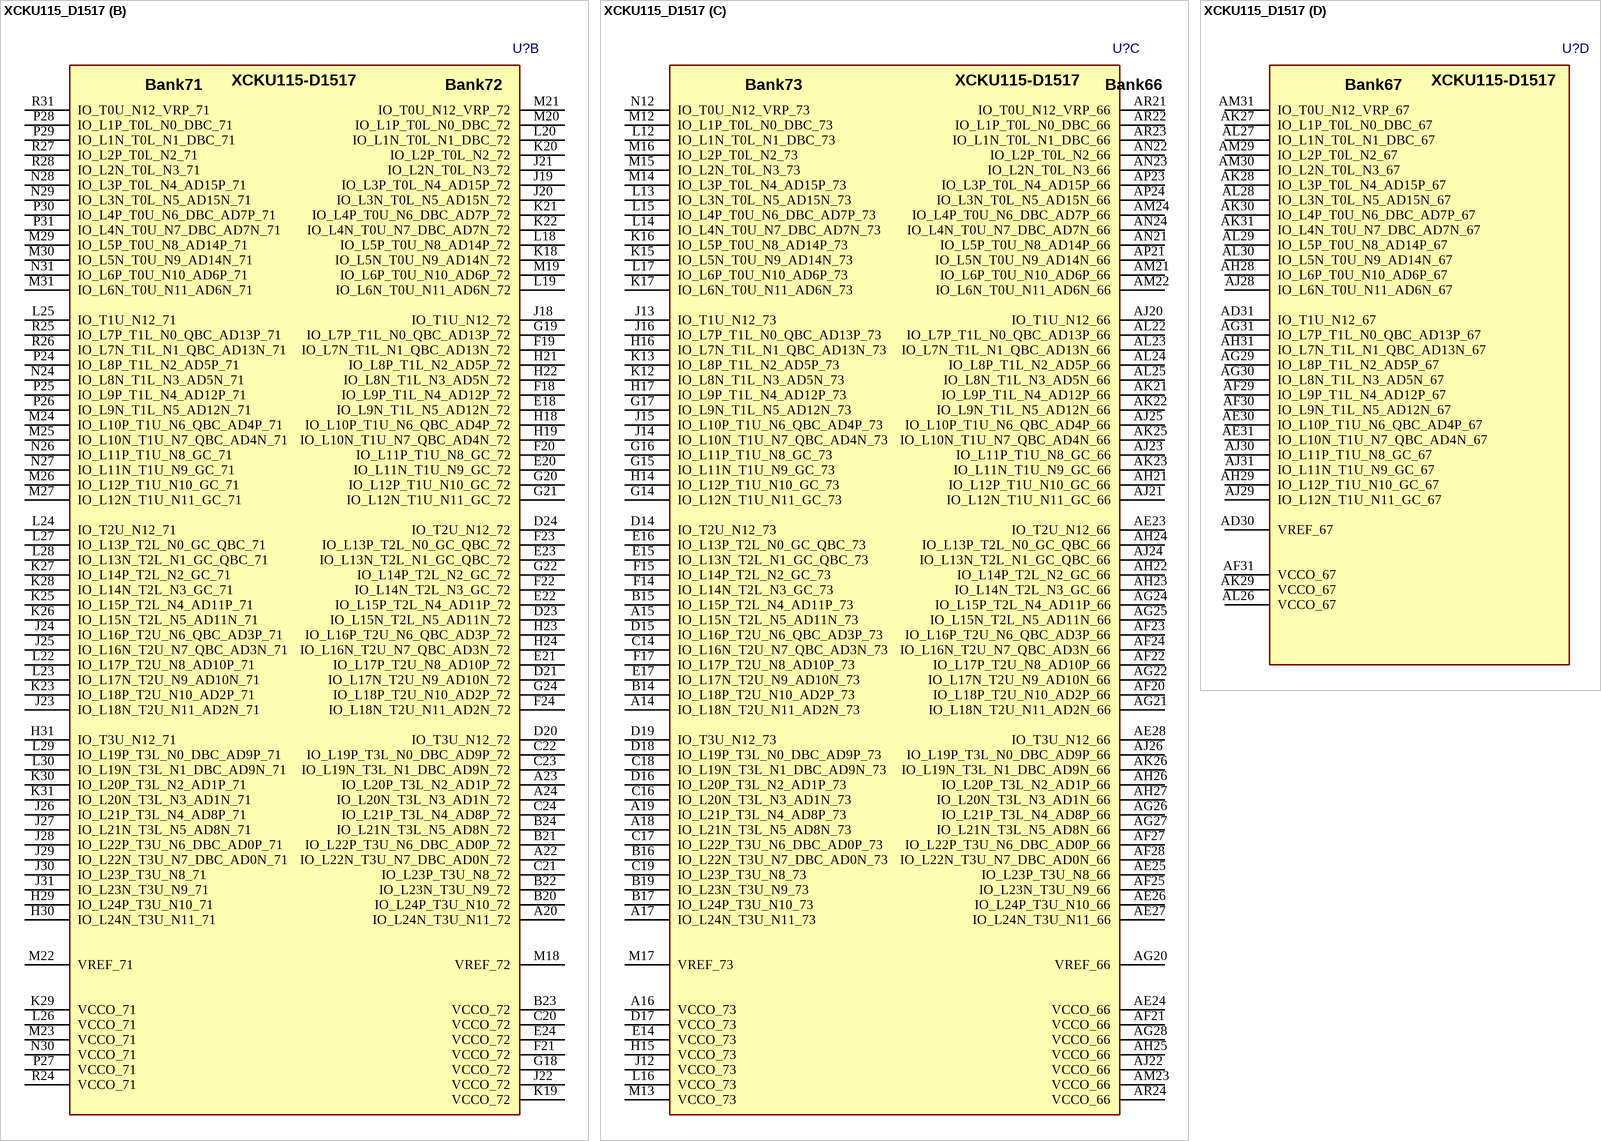
[diagram p21: symbol XCKU115_D1517]

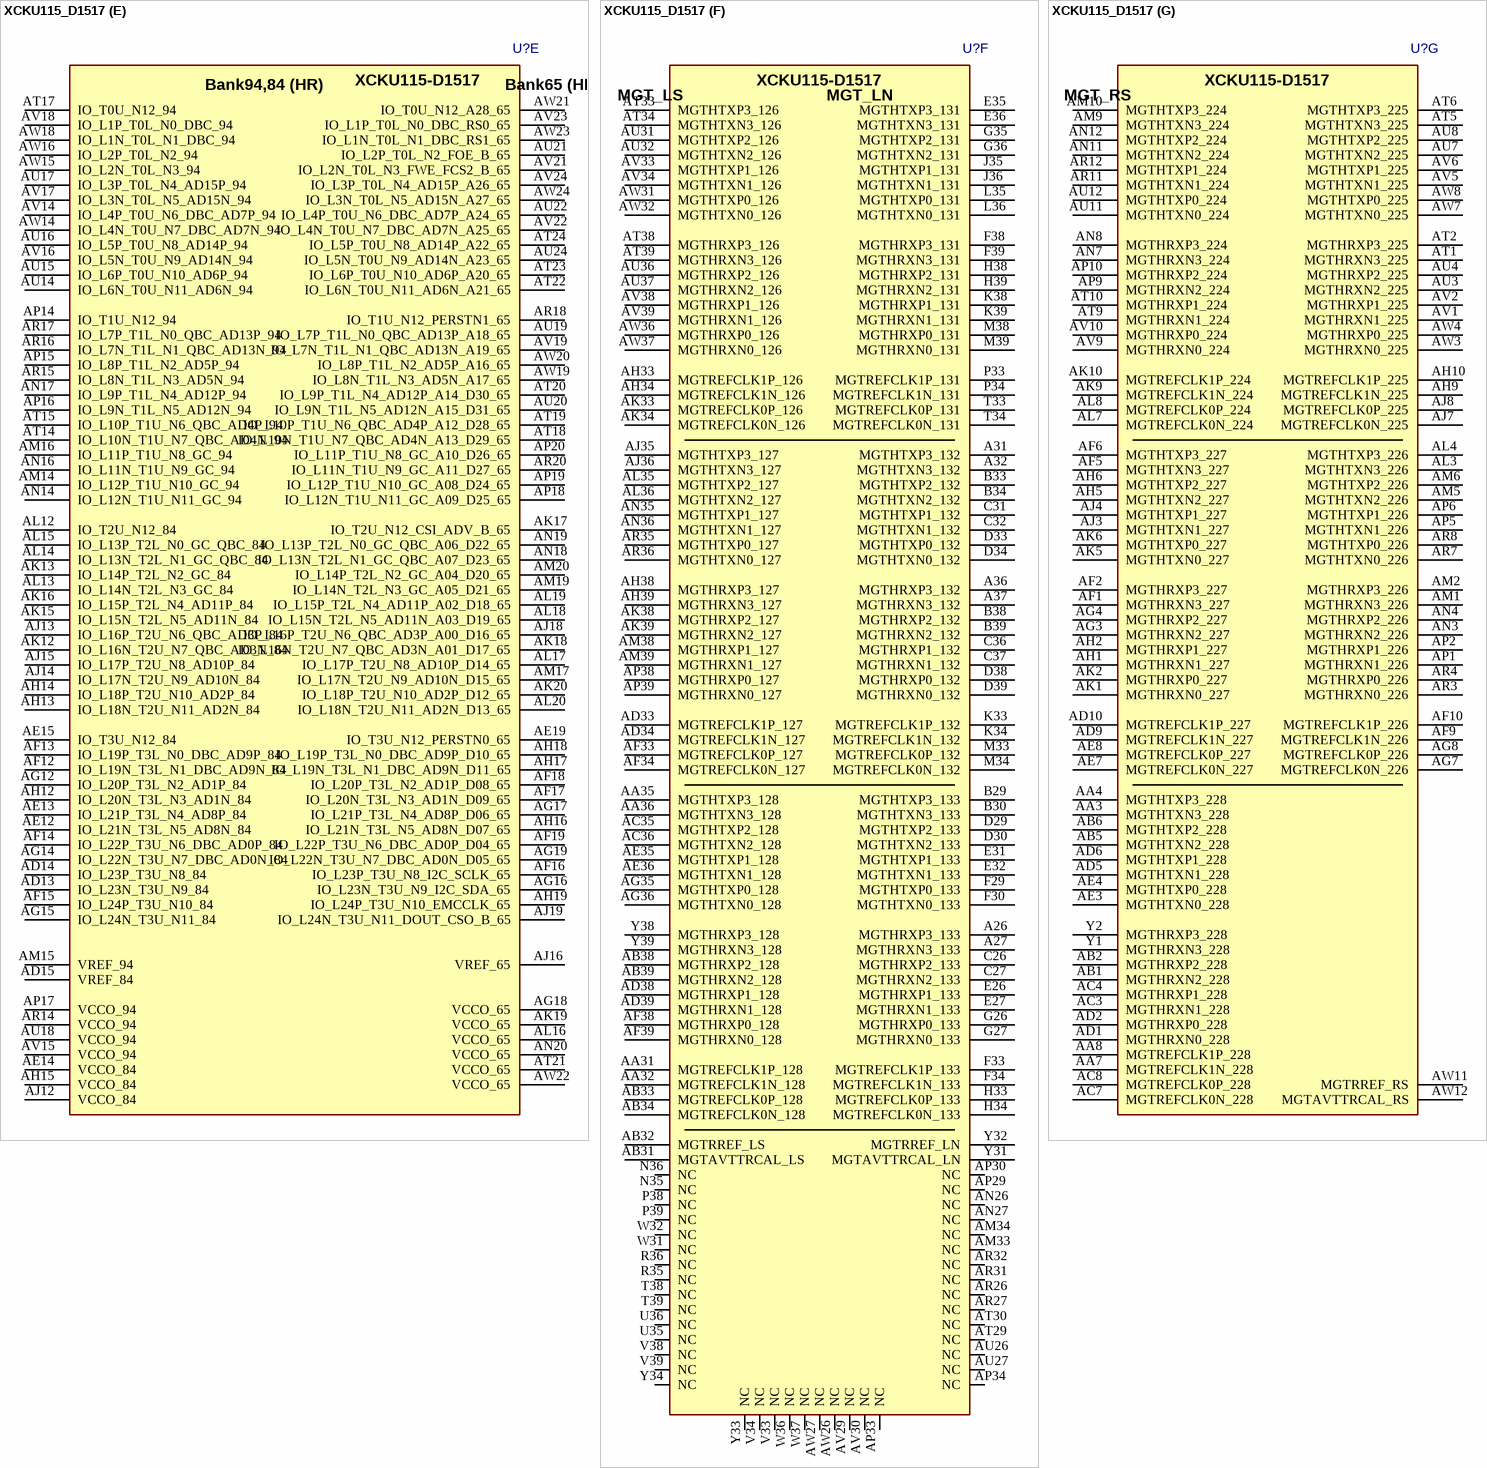
[diagram p22: symbol XCKU115_D1517]

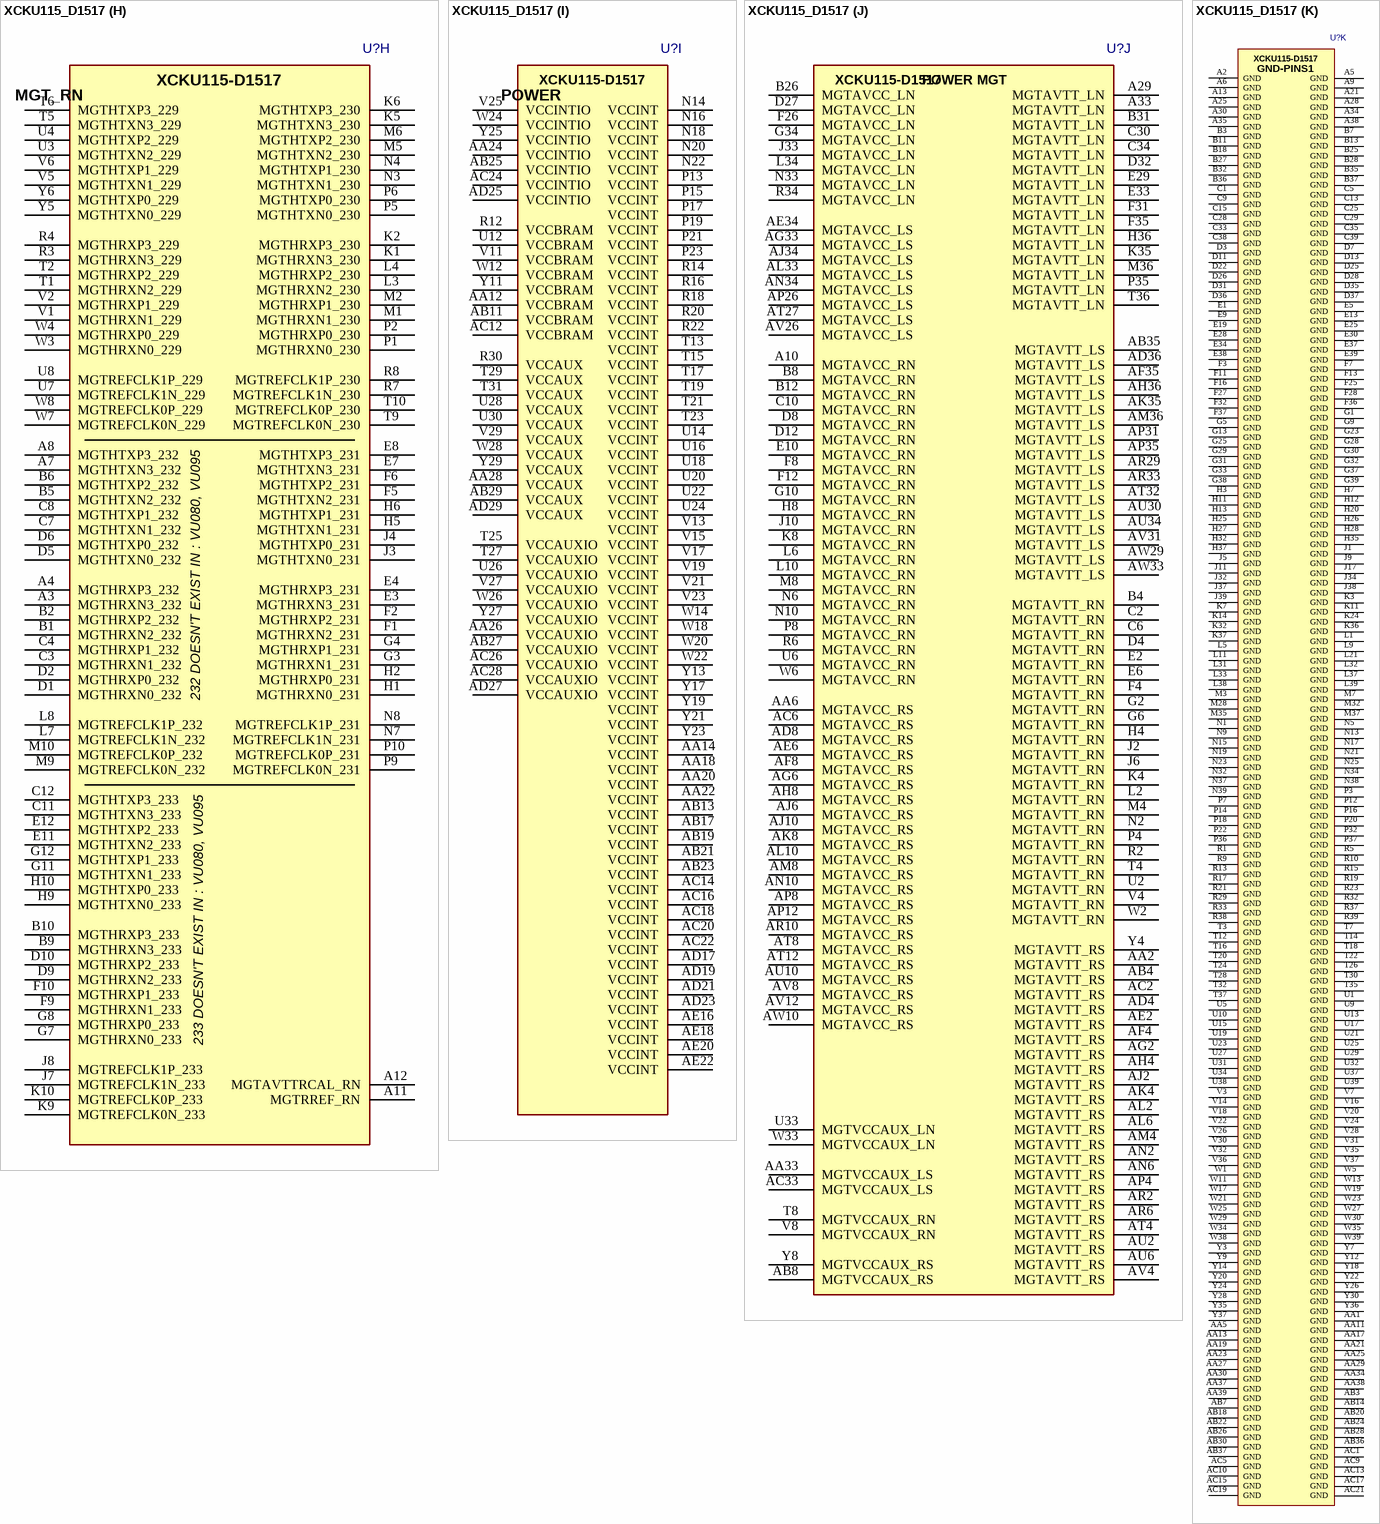
[diagram p23: symbol XCKU115_D1517]

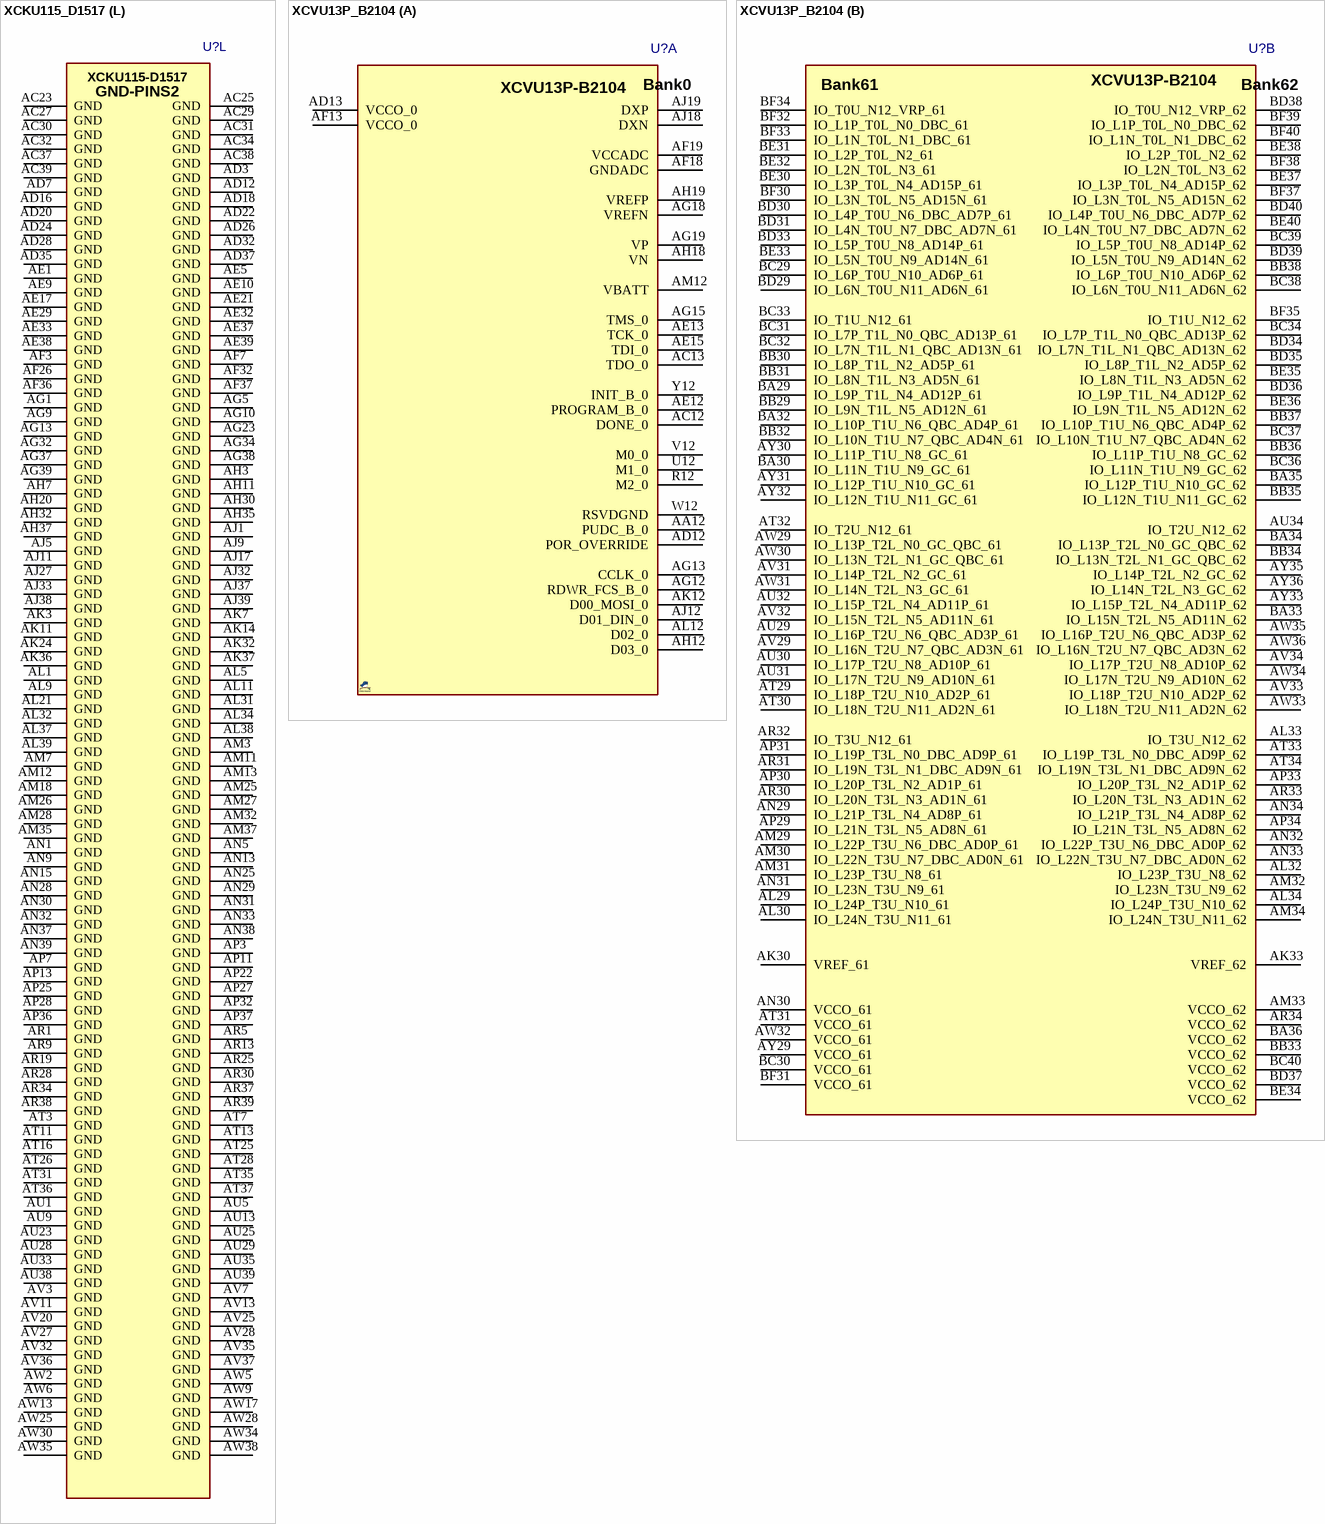
[diagram p24: symbols XCKU115_D1517 to XCVU13P_B2104]